# Altium schematic symbol library 3.0 - STM32L0-L1-L4系列单片机.SchLib: 39 symbols (part 1 of 3)
Pins are listed as number, name and electrical type; pins without a type are passive.

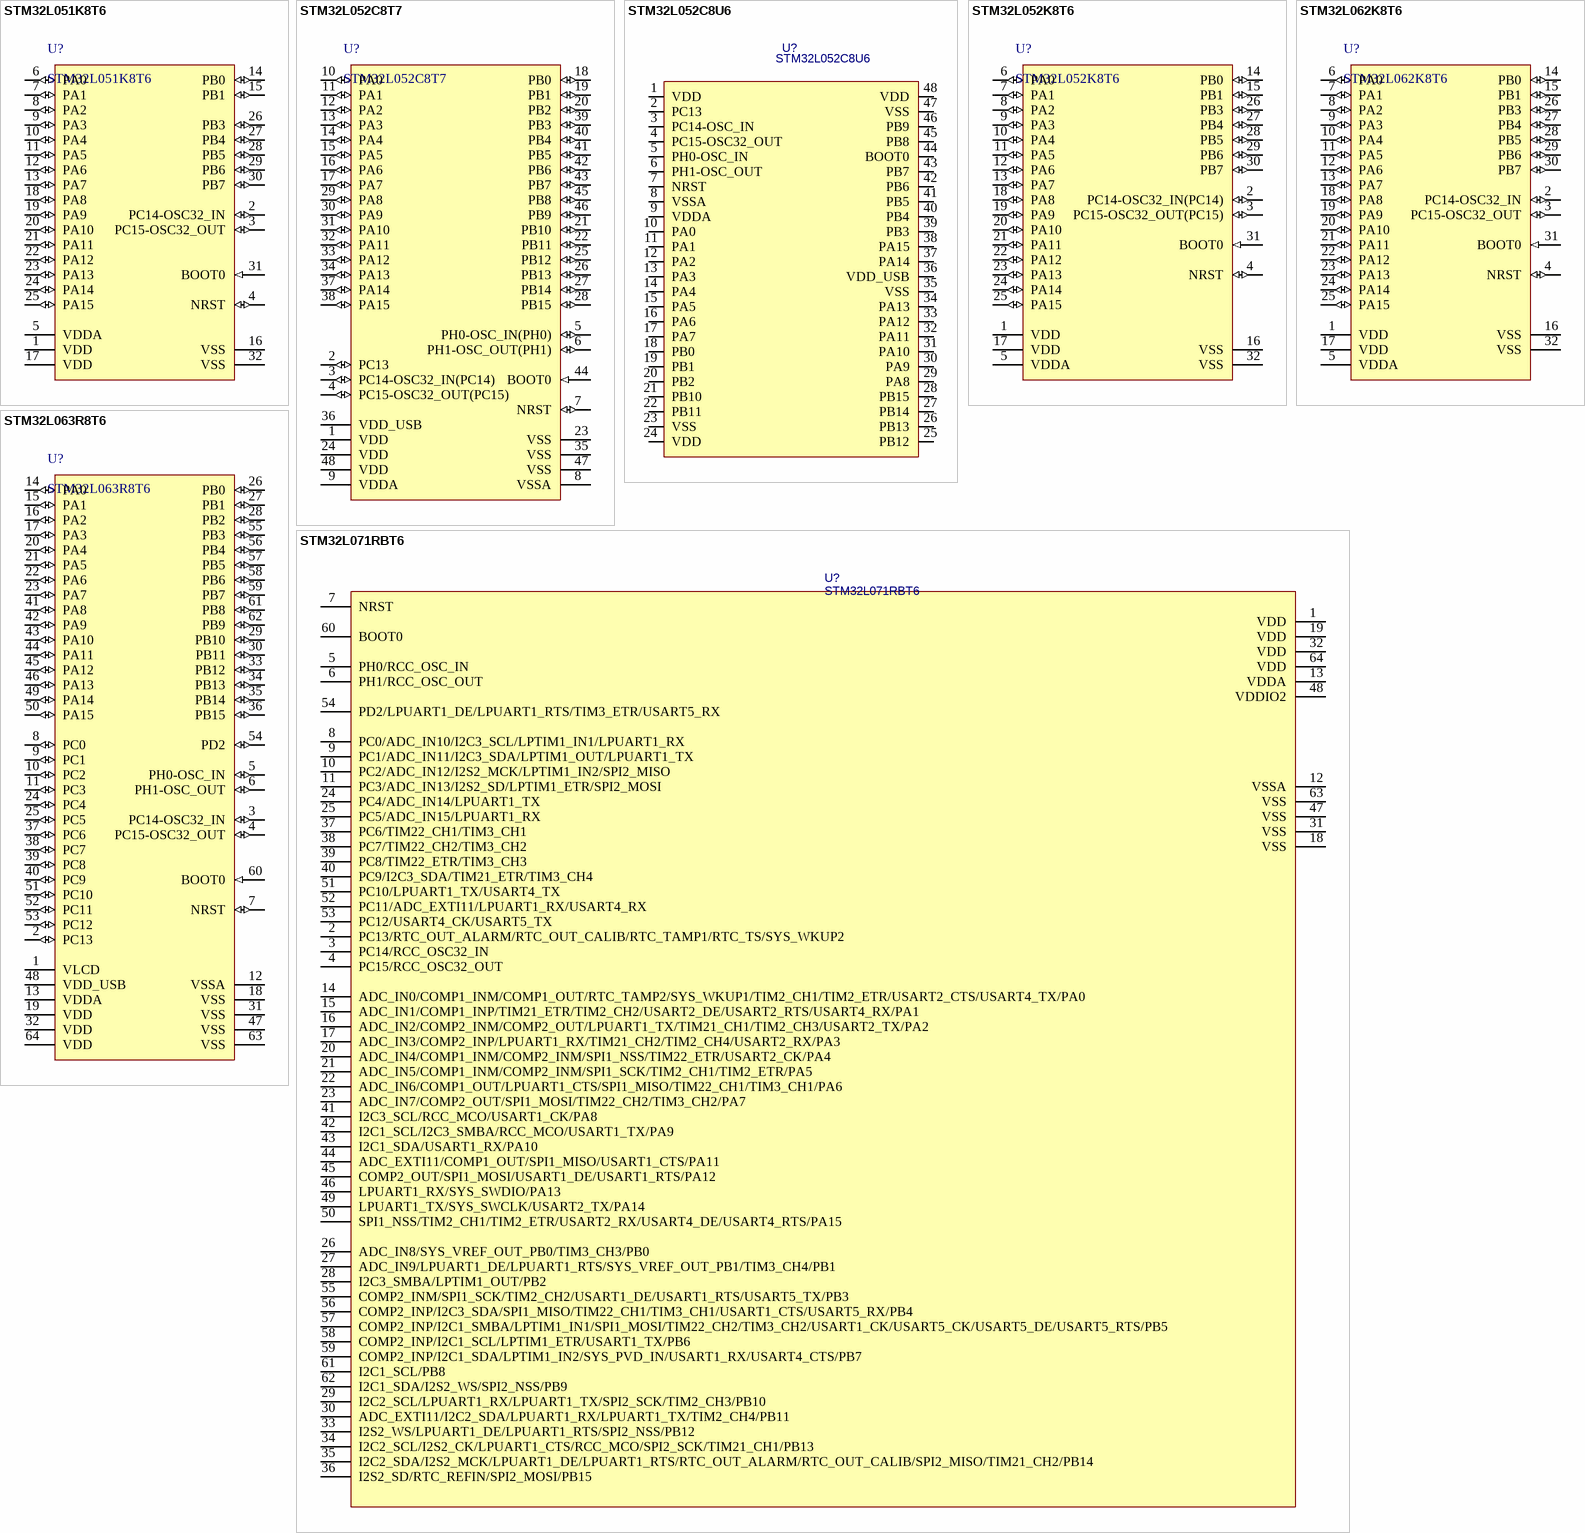
[diagram p0: symbols STM32L051K8T6 to STM32L071RBT6]

## STM32L051K8T6
designator U?
Ultra-Low-Power ARM Cortex-M0+ MCU, 64 KB Flash, 1.8 to 3.6 V, -40 to 85 degC, 32-Pin LQFP, RoHS, Tray; VDD Min: 1.8 V; VDD Max: 3.6 V; Flash: 64 KB; RAM: 8 KB; Data EEPROM: 2 KB; 封装库来自淘宝卖家ID：黄晶宝石: 其他店铺购入均为盗版假冒封装库,请立即申请退款，本店现金奖励100~1000元; Packing: Tray; Mounting Technology: Surface Mount; ComponentLink2URL: http://www.st.com/st-web-ui/static/active/en/resource/technical/document/datasheet/DM00108219.pdf; RoHS: TRUE; PackageDescription: 32-Pin Low-Profile Quad Flat Package, Body 7 x 7 mm, Pitch 0.8 mm; Temperature Max: 85 degC; ComponentLink3URL: http://www.st.com/st-web-ui/static/active/en/resource/technical/document/datasheet/DM00108219.pdf; ComponentLink1URL: http://www.st.com/web/en/home.html; DatasheetVersion: Rev. 4; Temperature Min: -40 degC; ComponentLink2Description: Datasheet; ComponentLink3Description: Package Specification; ComponentLink1Description: Manufacturer URL; PartNumber: STM32L051K8T6
footprint STM-LQFP32_M (QFP, 32-Leads, Body 7x7mm, Pitch 0.8mm, IPC Low Density)
footprint STM-LQFP32_L (QFP, 32-Leads, Body 7x7mm, Pitch 0.8mm, IPC High Density)
footprint STM-LQFP32_N (QFP, 32-Leads, Body 7x7mm, Pitch 0.8mm, IPC Medium Density)
pins: 1 VDD (power), 2 PC14-OSC32_IN (io), 3 PC15-OSC32_OUT (io), 4 NRST (io), 5 VDDA (power), 6 PA0 (io), 7 PA1 (io), 8 PA2 (io), 9 PA3 (io), 10 PA4 (io), 11 PA5 (io), 12 PA6 (io), 13 PA7 (io), 14 PB0 (io), 15 PB1 (io), 16 VSS (power), 17 VDD (power), 18 PA8 (io), 19 PA9 (io), 20 PA10 (io), 21 PA11 (io), 22 PA12 (io), 23 PA13 (io), 24 PA14 (io), 25 PA15 (io), 26 PB3 (io), 27 PB4 (io), 28 PB5 (io), 29 PB6 (io), 30 PB7 (io), 31 BOOT0 (in), 32 VSS (power)

## STM32L052C8T7
designator U?
Ultra-Low-Power ARM Cortex-M0+MCU, 64 KB Flash, 8 KB Internal RAM, 37 I/Os, 48-Pin LQFP, -40 to 105 degC, Tray; Supply Voltage(Vcc) min (V): 1.65; Internal RAM Size (kB): 8; D/A Converter: 1; Operating Frequency(F) (Processor speed) (MHz): 32; FLASH Size (Prog) (kB): 64; Data E2PROM nom (B): 2048; I/Os (High Current): 37; 封装库来自淘宝卖家ID：黄晶宝石: 其他店铺购入均为盗版假冒封装库,请立即申请退款，本店现金奖励100~1000元; ComponentLink1Description: Manufacturer URL; Package Reference: LQFP48; Package Description: 48-Pin Low Profile Quad Flat Package, Body 7 x 7 mm, Pitch 0.5 mm; Core: ARM Cortex-M0+; Mounting Technology: Surface Mount; ComponentLink1URL: http://www.st.com/; ComponentLink2URL: http://www.st.com/st-web-ui/static/active/en/resource/technical/document/datasheet/DM00108217.pdf; Packing: Tray; ComponentLink2Description: Datasheet; DatasheetVersion: Rev. 6
footprint STM-LQFP48_L (QFP, 48-Leads, Body 7x7mm, Pitch 0.5mm, IPC High Density)
footprint STM-LQFP48_M (QFP, 48-Leads, Body 7x7mm, Pitch 0.5mm, IPC Low Density)
footprint STM-LQFP48_N (QFP, 48-Leads, Body 7x7mm, Pitch 0.5mm, IPC Medium Density)
pins: 1 VDD (power), 2 PC13 (io) "PC13/RTC_TAMP1/RTC_TS/RTC_OUT/WKUP2", 3 PC14-OSC32_IN(PC14) (io) "PC14/OSC32_IN", 4 PC15-OSC32_OUT(PC15) (io) "PC15/OSC32_OUT", 5 PH0-OSC_IN(PH0) (io) "PH0/USB_CRS_SYNC/OSC_IN", 6 PH1-OSC_OUT(PH1) (io) "PH1/OSC_OUT", 7 NRST (io), 8 VSSA (power), 9 VDDA (power), 10 PA0 (io) "PA0/TIM2_CH1,TSC_G1_IO1,USART2_CTS,TIM2_ETR,COMP1_OUT/COMP1_INM6,ADC_IN0,RTC_TAMP2/WKUP1", 11 PA1 (io) "PA1/EVENTOUT,TIM2_CH2,TSC_G1_IO2,USART2_RTS_DE,TIM21_ETR/COMP1_INP,ADC_IN1", 12 PA2 (io) "PA2/TIM21_CH1,TIM2_CH3,TSC_G1_IO3,USART2_TX,COMP2_OUT/COMP2_INM6,ADC_IN2", 13 PA3 (io) "PA3/TIM21_CH2,TIM2_CH4,TSC_G1_IO4,USART2_RX/COMP2_INP,ADC_IN3", 14 PA4 (io) "PA4/SPI1_NSS,TSC_G2_IO1,USART2_CK,TIM22_ETR/COMP1_INM4,COMP2_INM4,ADC_IN4,DAC_OUT", 15 PA5 (io) "PA5/SPI1_SCK,TIM2_ETR,TSC_G2_IO2,TIM2_CH1/COMP1_INM5,COMP2_INM5,ADC_IN5", 16 PA6 (io) "PA6/SPI1_MISO,TSC_G2_IO3,LPUART1_CTS,TIM22_CH1,EVENTOUT,COMP1_OUT/ADC_IN6", 17 PA7 (io) "PA7/SPI1_MOSI,TSC_G2_IO4,TIM22_CH2,EVENTOUT,COMP2_OUT/ADC_IN7", 18 PB0 (io) "PB0/EVENTOUT,TSC_G3_IO2/ADC_IN8,VREF_OUT", 19 PB1 (io) "PB1/TSC_G3_IO3,LPUART1_RTS_DE/ADC_IN9,VREF_OUT", 20 PB2 (io) "PB2/LPTIM1_OUT,TSC_G3_IO4", 21 PB10 (io) "PB10/TIM2_CH3,TSC_SYNC,LPUART1_TX,SPI2_SCK,I2C2_SCL", 22 PB11 (io) "PB11/EVENTOUT,TIM2_CH4,TSC_G6_IO1,LPUART1_RX,I2C2_SDA", 23 VSS (power), 24 VDD (power), 25 PB12 (io) "PB12/SPI2_NSS/I2S2_WS,LPUART1_RTS_DE,TSC_G6_IO2,I2C2_SMBA,EVENTOUT", 26 PB13 (io) "PB13/SPI2_SCK/I2S2_CK,TSC_G6_IO3,LPUART1_CTS,I2C2_SCL,TIM21_CH1", 27 PB14 (io) "PB14/SPI2_MISO/I2S2_MCK,RTC_OUT,TSC_G6_IO4,LPUART1_RTS_DE,I2C2_SDA,TIM21_CH2", 28 PB15 (io) "PB15/SPI2_MOSI/I2S2_SD,RTC_REFIN", 29 PA8 (io) "PA8/MCO,USB_CRS_SYNC,EVENTOUT,USART1_CK", 30 PA9 (io) "PA9/MCO,TSC_G4_IO1,USART1_TX", 31 PA10 (io) "PA10/TSC_G4_IO2,USART1_RX", 32 PA11 (io) "PA11/SPI1_MISO,EVENTOUT,TSC_G4_IO3,USART1_CTS,COMP1_OUT/USB_DM", 33 PA12 (io) "PA12/SPI1_MOSI,EVENTOUT,TSC_G4_IO4,USART1_RTS_DE,COMP2_OUT/USB_DP", 34 PA13 (io) "PA13/SWDIO,USB_OE", 35 VSS (power), 36 VDD_USB (power), 37 PA14 (io) "PA14/SWCLK,USART2_TX", 38 PA15 (io) "PA15/SPI1_NSS,TIM2_ETR,EVENTOUT,USART2_RX,TIM2_CH1", 39 PB3 (io) "PB3/SPI1_SCK,TIM2_CH2,TSC_G5I_O1,EVENTOUT/COMP2_INN", 40 PB4 (io) "PB4/SPI1_MISO,EVENTOUT,TSC_G5_IO2,TIM22_CH1/COMP2_INP", 41 PB5 (io) "PB5/SPI1_MOSI,LPTIM1_IN1,I2C1_SMBA,TIM22_CH2/COMP2_INP", 42 PB6 (io) "PB6/USART1_TX,I2C1_SCL,LPTIM1_ETR,TSC_G5_IO3/COMP2_INP", 43 PB7 (io) "PB7/USART1_RX,I2C1_SDA,LPTIM1_IN2,TSC_G5_IO4/COMP2_INP,PVD_IN", 44 BOOT0 (in), 45 PB8 (io) "PB8/TSC_SYNC,I2C1_SCL", 46 PB9 (io) "PB9/EVENTOUT,I2C1_SDA,SPI2_NSS/I2S2_WS", 47 VSS (power), 48 VDD (power)

## STM32L052C8U6
designator U?
BOM_Manufacturer: STMicroelectronics; 封装库来自淘宝卖家ID：黄晶宝石: 其他店铺购入均为盗版假冒封装库,请立即申请退款，本店现金奖励100~1000元
footprint UFQFPN48_N (QFN, 48-Leads, Body 7x7mm, Pitch 0.5mm, Thermal Pad 5.6x5.6mm, IPC Medium Density)
pins: 1 VDD, 2 PC13, 3 PC14-OSC_IN, 4 PC15-OSC32_OUT, 5 PH0-OSC_IN, 6 PH1-OSC_OUT, 7 NRST, 8 VSSA, 9 VDDA, 10 PA0, 11 PA1, 12 PA2, 13 PA3, 14 PA4, 15 PA5, 16 PA6, 17 PA7, 18 PB0, 19 PB1, 20 PB2, 21 PB10, 22 PB11, 23 VSS, 24 VDD, 25 PB12, 26 PB13, 27 PB14, 28 PB15, 29 PA8, 30 PA9, 31 PA10, 32 PA11, 33 PA12, 34 PA13, 35 VSS, 36 VDD_USB, 37 PA14, 38 PA15, 39 PB3, 40 PB4, 41 PB5, 42 PB6, 43 PB7, 44 BOOT0, 45 PB8, 46 PB9, 47 VSS, 48 VDD

## STM32L052K8T6
designator U?
Ultra-Low-Power ARM Cortex-M0+MCU, 64 KB Flash, 8 KB Internal RAM, 27 I/Os, 32-Pin LQFP, -40 to 85 degC, Tray; I/Os (High Current): 27; FLASH Size (Prog) (kB): 64; Supply Voltage(Vcc) min (V): 1.65; Internal RAM Size (kB): 8; Data E2PROM nom (B): 2048; Operating Frequency(F) (Processor speed) (MHz): 32; D/A Converter: 1; 封装库来自淘宝卖家ID：黄晶宝石: 其他店铺购入均为盗版假冒封装库,请立即申请退款，本店现金奖励100~1000元; DatasheetVersion: Rev. 6; ComponentLink2Description: Datasheet; Package Reference: LQFP32; Mounting Technology: Surface Mount; Packing: Tray; ComponentLink2URL: http://www.st.com/st-web-ui/static/active/en/resource/technical/document/datasheet/DM00108217.pdf; ComponentLink1URL: http://www.st.com/; Core: ARM Cortex-M0+; Package Description: 32-Pin Low Profile Quad Flat Package, 7 x 7 mm Body, 0.8 mm Pitch; ComponentLink1Description: Manufacturer URL
footprint STM-LQFP32_N (QFP, 32-Leads, Body 7x7mm, Pitch 0.8mm, IPC Medium Density)
footprint STM-LQFP32_M (QFP, 32-Leads, Body 7x7mm, Pitch 0.8mm, IPC Low Density)
footprint STM-LQFP32_L (QFP, 32-Leads, Body 7x7mm, Pitch 0.8mm, IPC High Density)
pins: 1 VDD (power), 2 PC14-OSC32_IN(PC14) (io) "PC14/OSC32_IN", 3 PC15-OSC32_OUT(PC15) (io) "PC15/OSC32_OUT", 4 NRST (io), 5 VDDA (power), 6 PA0 (io) "PA0/TIM2_CH1,TSC_G1_IO1,USART2_CTS,TIM2_ETR,COMP1_OUT/COMP1_INM6,ADC_IN0,RTC_TAMP2/WKUP1", 7 PA1 (io) "PA1/EVENTOUT,TIM2_CH2,TSC_G1_IO2,USART2_RTS_DE,TIM21_ETR/COMP1_INP,ADC_IN1", 8 PA2 (io) "PA2/TIM21_CH1,TIM2_CH3,TSC_G1_IO3,USART2_TX,COMP2_OUT/COMP2_INM6,ADC_IN2", 9 PA3 (io) "PA3/TIM21_CH2,TIM2_CH4,TSC_G1_IO4,USART2_RX/COMP2_INP,ADC_IN3", 10 PA4 (io) "PA4/SPI1_NSS,TSC_G2_IO1,USART2_CK,TIM22_ETR/COMP1_INM4,COMP2_INM4,ADC_IN4,DAC_OUT", 11 PA5 (io) "PA5/SPI1_SCK,TIM2_ETR,TSC_G2_IO2,TIM2_CH1/COMP1_INM5,COMP2_INM5,ADC_IN5", 12 PA6 (io) "PA6/SPI1_MISO,TSC_G2_IO3,LPUART1_CTS,TIM22_CH1,EVENTOUT,COMP1_OUT/ADC_IN6", 13 PA7 (io) "PA7/SPI1_MOSI,TSC_G2_IO4,TIM22_CH2,EVENTOUT,COMP2_OUT/ADC_IN7", 14 PB0 (io) "PB0/EVENTOUT,TSC_G3_IO2/ADC_IN8,VREF_OUT", 15 PB1 (io) "PB1/TSC_G3_IO3,LPUART1_RTS_DE/ADC_IN9,VREF_OUT", 16 VSS (power), 17 VDD (power), 18 PA8 (io) "PA8/MCO,USB_CRS_SYNC,EVENTOUT,USART1_CK", 19 PA9 (io) "PA9/MCO,TSC_G4_IO1,USART1_TX", 20 PA10 (io) "PA10/TSC_G4_IO2,USART1_RX", 21 PA11 (io) "PA11/SPI1_MISO,EVENTOUT,TSC_G4_IO3,USART1_CTS,COMP1_OUT/USB_DM", 22 PA12 (io) "PA12/SPI1_MOSI,EVENTOUT,TSC_G4_IO4,USART1_RTS_DE,COMP2_OUT/USB_DP", 23 PA13 (io) "PA13/SWDIO,USB_OE", 24 PA14 (io) "PA14/SWCLK,USART2_TX", 25 PA15 (io) "PA15/SPI1_NSS,TIM2_ETR,EVENTOUT,USART2_RX,TIM2_CH1", 26 PB3 (io) "PB3/SPI1_SCK,TIM2_CH2,TSC_G5I_O1,EVENTOUT/COMP2_INN", 27 PB4 (io) "PB4/SPI1_MISO,EVENTOUT,TSC_G5_IO2,TIM22_CH1/COMP2_INP", 28 PB5 (io) "PB5/SPI1_MOSI,LPTIM1_IN1,I2C1_SMBA,TIM22_CH2/COMP2_INP", 29 PB6 (io) "PB6/USART1_TX,I2C1_SCL,LPTIM1_ETR,TSC_G5_IO3/COMP2_INP", 30 PB7 (io) "PB7/USART1_RX,I2C1_SDA,LPTIM1_IN2,TSC_G5_IO4/COMP2_INP,PVD_IN", 31 BOOT0 (in), 32 VSS (power)

## STM32L062K8T6
designator U?
Ultra-Low-Power ARM Cortex-M0+ MCU, 64 KB Flash, 8 KB Internal RAM, 27 I/Os, 32-Pin LQFP, -40 to 85 degC, Tray; Internal RAM Size (kB): 8; I/Os (High Current): 27; D/A Converter: 1; Operating Frequency(F) (Processor speed) (MHz): 32; Supply Voltage(Vcc) min (V): 1.65; FLASH Size (Prog) (kB): 64; Data E2PROM nom (B): 2048; 封装库来自淘宝卖家ID：黄晶宝石: 其他店铺购入均为盗版假冒封装库,请立即申请退款，本店现金奖励100~1000元; ComponentLink2Description: Datasheet; DatasheetVersion: Rev. 7; ComponentLink2URL: http://www.st.com/st-web-ui/static/active/en/resource/technical/document/datasheet/DM00108218.pdf; Core: ARM Cortex-M0+; Package Reference: LQFP32; ComponentLink1Description: Manufacturer URL; Package Description: 32-Pin Low Profile Quad Flat Package, 7 x 7 mm Body, 0.8 mm Pitch; Mounting Technology: Surface Mount; ComponentLink1URL: http://www.st.com/; Packing: Tray
footprint STM-LQFP32_N-1 (QFP, 32-Leads, Body 7x7mm, Pitch 0.8mm, IPC Medium Density)
footprint STM-LQFP32_M-2 (QFP, 32-Leads, Body 7x7mm, Pitch 0.8mm, IPC Low Density)
footprint STM-LQFP32_L-3 (QFP, 32-Leads, Body 7x7mm, Pitch 0.8mm, IPC High Density)
pins: 1 VDD (power), 2 PC14-OSC32_IN (io) "PC14-OSC32_IN/OSC32_IN", 3 PC15-OSC32_OUT (io) "PC15-OSC32_OUT/OSC32_OUT", 4 NRST (io), 5 VDDA (power), 6 PA0 (io) "PA0/TIM2_CH1,TSC_G1_IO1,USART2_CTS,TIM2_ETR,COMP1_OUT/COMP1_INM6,ADC_IN0,RTC_TAMP2/WKUP1", 7 PA1 (io) "PA1/EVENTOUT,TIM2_CH2,TSC_G1_IO2,USART2_RTS_DE,TIM21_ETR/COMP1_INP,ADC_IN1", 8 PA2 (io) "PA2/TIM21_CH1,TIM2_CH3,TSC_G1_IO3,USART2_TX,COMP2_OUT/COMP2_INM6,ADC_IN2", 9 PA3 (io) "PA3/TIM21_CH2,TIM2_CH4,TSC_G1_IO4,USART2_RX/COMP2_INP,ADC_IN3", 10 PA4 (io) "PA4/SPI1_NSS,TSC_G2_IO1,USART2_CK,TIM22_ETR/COMP1_INM4,COMP2_INM4,ADC_IN4,DAC_OUT", 11 PA5 (io) "PA5/SPI1_SCK,TIM2_ETR,TSC_G2_IO2,TIM2_CH1/COMP1_INM5,COMP2_INM5,ADC_IN5", 12 PA6 (io) "PA6/SPI1_MISO,TSC_G2_IO3,LPUART1_CTS,TIM22_CH1,EVENTOUT,COMP1_OUT/ADC_IN6", 13 PA7 (io) "PA7/SPI1_MOSI,TSC_G2_IO4,TIM22_CH2,EVENTOUT,COMP2_OUT/ADC_IN7", 14 PB0 (io) "PB0/EVENTOUT,TSC_G3_IO2/ADC_IN8,VREF_OUT", 15 PB1 (io) "PB1/TSC_G3_IO3,LPUART1_RTS_DE/ADC_IN9,VREF_OUT", 16 VSS (power), 17 VDD (power), 18 PA8 (io) "PA8/MCO,USB_CRS_SYNC,EVENTOUT,USART1_CK", 19 PA9 (io) "PA9/MCO,TSC_G4_IO1,USART1_TX", 20 PA10 (io) "PA10/TSC_G4_IO2,USART1_RX", 21 PA11 (io) "PA11/SPI1_MISO,EVENTOUT,TSC_G4_IO3,USART1_CTS,COMP1_OUT/USB_DM", 22 PA12 (io) "PA12/SPI1_MOSI,EVENTOUT,TSC_G4_IO4,USART1_RTS_DE,COMP2_OUT/USB_DP", 23 PA13 (io) "PA13/SWDIO,USB_OE", 24 PA14 (io) "PA14/SWCLK,USART2_TX", 25 PA15 (io) "PA15/SPI1_NSS,TIM2_ETR,EVENTOUT,USART2_RX,TIM2_CH1", 26 PB3 (io) "PB3/SPI1_SCK,TIM2_CH2,TSC_G5I_O1,EVENTOUT/COMP2_INN", 27 PB4 (io) "PB4/SPI1_MISO,EVENTOUT,TSC_G5_IO2,TIM22_CH1/COMP2_INP", 28 PB5 (io) "PB5/SPI1_MOSI,LPTIM1_IN1,I2C1_SMBA,TIM22_CH2/COMP2_INP", 29 PB6 (io) "PB6/USART1_TX,I2C1_SCL,LPTIM1_ETR,TSC_G5_IO3/COMP2_INP", 30 PB7 (io) "PB7/USART1_RX,I2C1_SDA,LPTIM1_IN2,TSC_G5_IO4/COMP2_INP,PVD_IN", 31 BOOT0 (in), 32 VSS (power)

## STM32L063R8T6
designator U?
Ultra-Low-Power ARM Cortex-M0+ MCU, 64 KB Flash, 1.8 to 3.6 V, -40 to 85 degC, 64-Pin LQFP, RoHS, Tray; Data EEPROM: 2 KB; VDD Max: 3.6 V; RAM: 8 KB; VDD Min: 1.8 V; Flash: 64 KB; 封装库来自淘宝卖家ID：黄晶宝石: 其他店铺购入均为盗版假冒封装库,请立即申请退款，本店现金奖励100~1000元; Mounting Technology: Surface Mount; ComponentLink3URL: http://www.st.com/st-web-ui/static/active/en/resource/technical/document/datasheet/DM00058181.pdf; Packing: Tray; PackageDescription: 64-Pin Frame Chip Scale Package, Body 10 x 10 mm, Pitch 0.5 mm; DatasheetVersion: Rev. 4; ComponentLink2Description: Datasheet; ComponentLink1URL: http://www.st.com/web/en/home.html; Temperature Min: -40 degC; ComponentLink2URL: http://www.st.com/st-web-ui/static/active/en/resource/technical/document/datasheet/DM00102435.pdf; ComponentLink3Description: Package Specification; PartNumber: STM32L063R8T6; PackageVersion: Rev. 6, 06/2013; Temperature Max: 85 degC; RoHS: TRUE; ComponentLink1Description: Manufacturer URL
footprint STM-LQFP64_V (Thin QFP, 64-Leads, Body 10x10mm, Pitch 0.5mm, ST Recommended)
pins: 1 VLCD (power), 2 PC13 (io), 3 PC14-OSC32_IN (io), 4 PC15-OSC32_OUT (io), 5 PH0-OSC_IN (io), 6 PH1-OSC_OUT (io), 7 NRST (io), 8 PC0 (io), 9 PC1 (io), 10 PC2 (io), 11 PC3 (io), 12 VSSA (power), 13 VDDA (power), 14 PA0 (io), 15 PA1 (io), 16 PA2 (io), 17 PA3 (io), 18 VSS (power), 19 VDD (power), 20 PA4 (io), 21 PA5 (io), 22 PA6 (io), 23 PA7 (io), 24 PC4 (io), 25 PC5 (io), 26 PB0 (io), 27 PB1 (io), 28 PB2 (io), 29 PB10 (io), 30 PB11 (io), 31 VSS (power), 32 VDD (power), 33 PB12 (io), 34 PB13 (io), 35 PB14 (io), 36 PB15 (io), 37 PC6 (io), 38 PC7 (io), 39 PC8 (io), 40 PC9 (io), 41 PA8 (io), 42 PA9 (io), 43 PA10 (io), 44 PA11 (io), 45 PA12 (io), 46 PA13 (io), 47 VSS (power), 48 VDD_USB (power), 49 PA14 (io), 50 PA15 (io), 51 PC10 (io), 52 PC11 (io), 53 PC12 (io), 54 PD2 (io), 55 PB3 (io), 56 PB4 (io), 57 PB5 (io), 58 PB6 (io), 59 PB7 (io), 60 BOOT0 (in), 61 PB8 (io), 62 PB9 (io), 63 VSS (power), 64 VDD (power)

## STM32L071RBT6
designator U?
BOM_Manufacturer: STMicroelectronics; 封装库来自淘宝卖家ID：黄晶宝石: 其他店铺购入均为盗版假冒封装库,请立即申请退款，本店现金奖励100~1000元
footprint LQFP64_L (封装库来自淘宝 ID：黄晶宝石 Thin QFP, 64-Leads, Body 10x10mm, Pitch 0.5mm, IPC High Density)
pins: 1 VDD, 2 PC13/RTC_OUT_ALARM/RTC_OUT_CALIB/RTC_TAMP1/RTC_TS/SYS_WKUP2, 3 PC14/RCC_OSC32_IN, 4 PC15/RCC_OSC32_OUT, 5 PH0/RCC_OSC_IN, 6 PH1/RCC_OSC_OUT, 7 NRST, 8 PC0/ADC_IN10/I2C3_SCL/LPTIM1_IN1/LPUART1_RX, 9 PC1/ADC_IN11/I2C3_SDA/LPTIM1_OUT/LPUART1_TX, 10 PC2/ADC_IN12/I2S2_MCK/LPTIM1_IN2/SPI2_MISO, 11 PC3/ADC_IN13/I2S2_SD/LPTIM1_ETR/SPI2_MOSI, 12 VSSA, 13 VDDA, 14 ADC_IN0/COMP1_INM/COMP1_OUT/RTC_TAMP2/SYS_WKUP1/TIM2_CH1/TIM2_ETR/USART2_CTS/USART4_TX/PA0, 15 ADC_IN1/COMP1_INP/TIM21_ETR/TIM2_CH2/USART2_DE/USART2_RTS/USART4_RX/PA1, 16 ADC_IN2/COMP2_INM/COMP2_OUT/LPUART1_TX/TIM21_CH1/TIM2_CH3/USART2_TX/PA2, 17 ADC_IN3/COMP2_INP/LPUART1_RX/TIM21_CH2/TIM2_CH4/USART2_RX/PA3, 18 VSS, 19 VDD, 20 ADC_IN4/COMP1_INM/COMP2_INM/SPI1_NSS/TIM22_ETR/USART2_CK/PA4, 21 ADC_IN5/COMP1_INM/COMP2_INM/SPI1_SCK/TIM2_CH1/TIM2_ETR/PA5, 22 ADC_IN6/COMP1_OUT/LPUART1_CTS/SPI1_MISO/TIM22_CH1/TIM3_CH1/PA6, 23 ADC_IN7/COMP2_OUT/SPI1_MOSI/TIM22_CH2/TIM3_CH2/PA7, 24 PC4/ADC_IN14/LPUART1_TX, 25 PC5/ADC_IN15/LPUART1_RX, 26 ADC_IN8/SYS_VREF_OUT_PB0/TIM3_CH3/PB0, 27 ADC_IN9/LPUART1_DE/LPUART1_RTS/SYS_VREF_OUT_PB1/TIM3_CH4/PB1, 28 I2C3_SMBA/LPTIM1_OUT/PB2, 29 I2C2_SCL/LPUART1_RX/LPUART1_TX/SPI2_SCK/TIM2_CH3/PB10, 30 ADC_EXTI11/I2C2_SDA/LPUART1_RX/LPUART1_TX/TIM2_CH4/PB11, 31 VSS, 32 VDD, 33 I2S2_WS/LPUART1_DE/LPUART1_RTS/SPI2_NSS/PB12, 34 I2C2_SCL/I2S2_CK/LPUART1_CTS/RCC_MCO/SPI2_SCK/TIM21_CH1/PB13, 35 I2C2_SDA/I2S2_MCK/LPUART1_DE/LPUART1_RTS/RTC_OUT_ALARM/RTC_OUT_CALIB/SPI2_MISO/TIM21_CH2/PB14, 36 I2S2_SD/RTC_REFIN/SPI2_MOSI/PB15, 37 PC6/TIM22_CH1/TIM3_CH1, 38 PC7/TIM22_CH2/TIM3_CH2, 39 PC8/TIM22_ETR/TIM3_CH3, 40 PC9/I2C3_SDA/TIM21_ETR/TIM3_CH4, 41 I2C3_SCL/RCC_MCO/USART1_CK/PA8, 42 I2C1_SCL/I2C3_SMBA/RCC_MCO/USART1_TX/PA9, 43 I2C1_SDA/USART1_RX/PA10, 44 ADC_EXTI11/COMP1_OUT/SPI1_MISO/USART1_CTS/PA11, 45 COMP2_OUT/SPI1_MOSI/USART1_DE/USART1_RTS/PA12, 46 LPUART1_RX/SYS_SWDIO/PA13, 47 VSS, 48 VDDIO2, 49 LPUART1_TX/SYS_SWCLK/USART2_TX/PA14, 50 SPI1_NSS/TIM2_CH1/TIM2_ETR/USART2_RX/USART4_DE/USART4_RTS/PA15, 51 PC10/LPUART1_TX/USART4_TX, 52 PC11/ADC_EXTI11/LPUART1_RX/USART4_RX, 53 PC12/USART4_CK/USART5_TX, 54 PD2/LPUART1_DE/LPUART1_RTS/TIM3_ETR/USART5_RX, 55 COMP2_INM/SPI1_SCK/TIM2_CH2/USART1_DE/USART1_RTS/USART5_TX/PB3, 56 COMP2_INP/I2C3_SDA/SPI1_MISO/TIM22_CH1/TIM3_CH1/USART1_CTS/USART5_RX/PB4, 57 COMP2_INP/I2C1_SMBA/LPTIM1_IN1/SPI1_MOSI/TIM22_CH2/TIM3_CH2/USART1_CK/USART5_CK/USART5_DE/USART5_RTS/PB5, 58 COMP2_INP/I2C1_SCL/LPTIM1_ETR/USART1_TX/PB6, 59 COMP2_INP/I2C1_SDA/LPTIM1_IN2/SYS_PVD_IN/USART1_RX/USART4_CTS/PB7, 60 BOOT0, 61 I2C1_SCL/PB8, 62 I2C1_SDA/I2S2_WS/SPI2_NSS/PB9, 63 VSS, 64 VDD

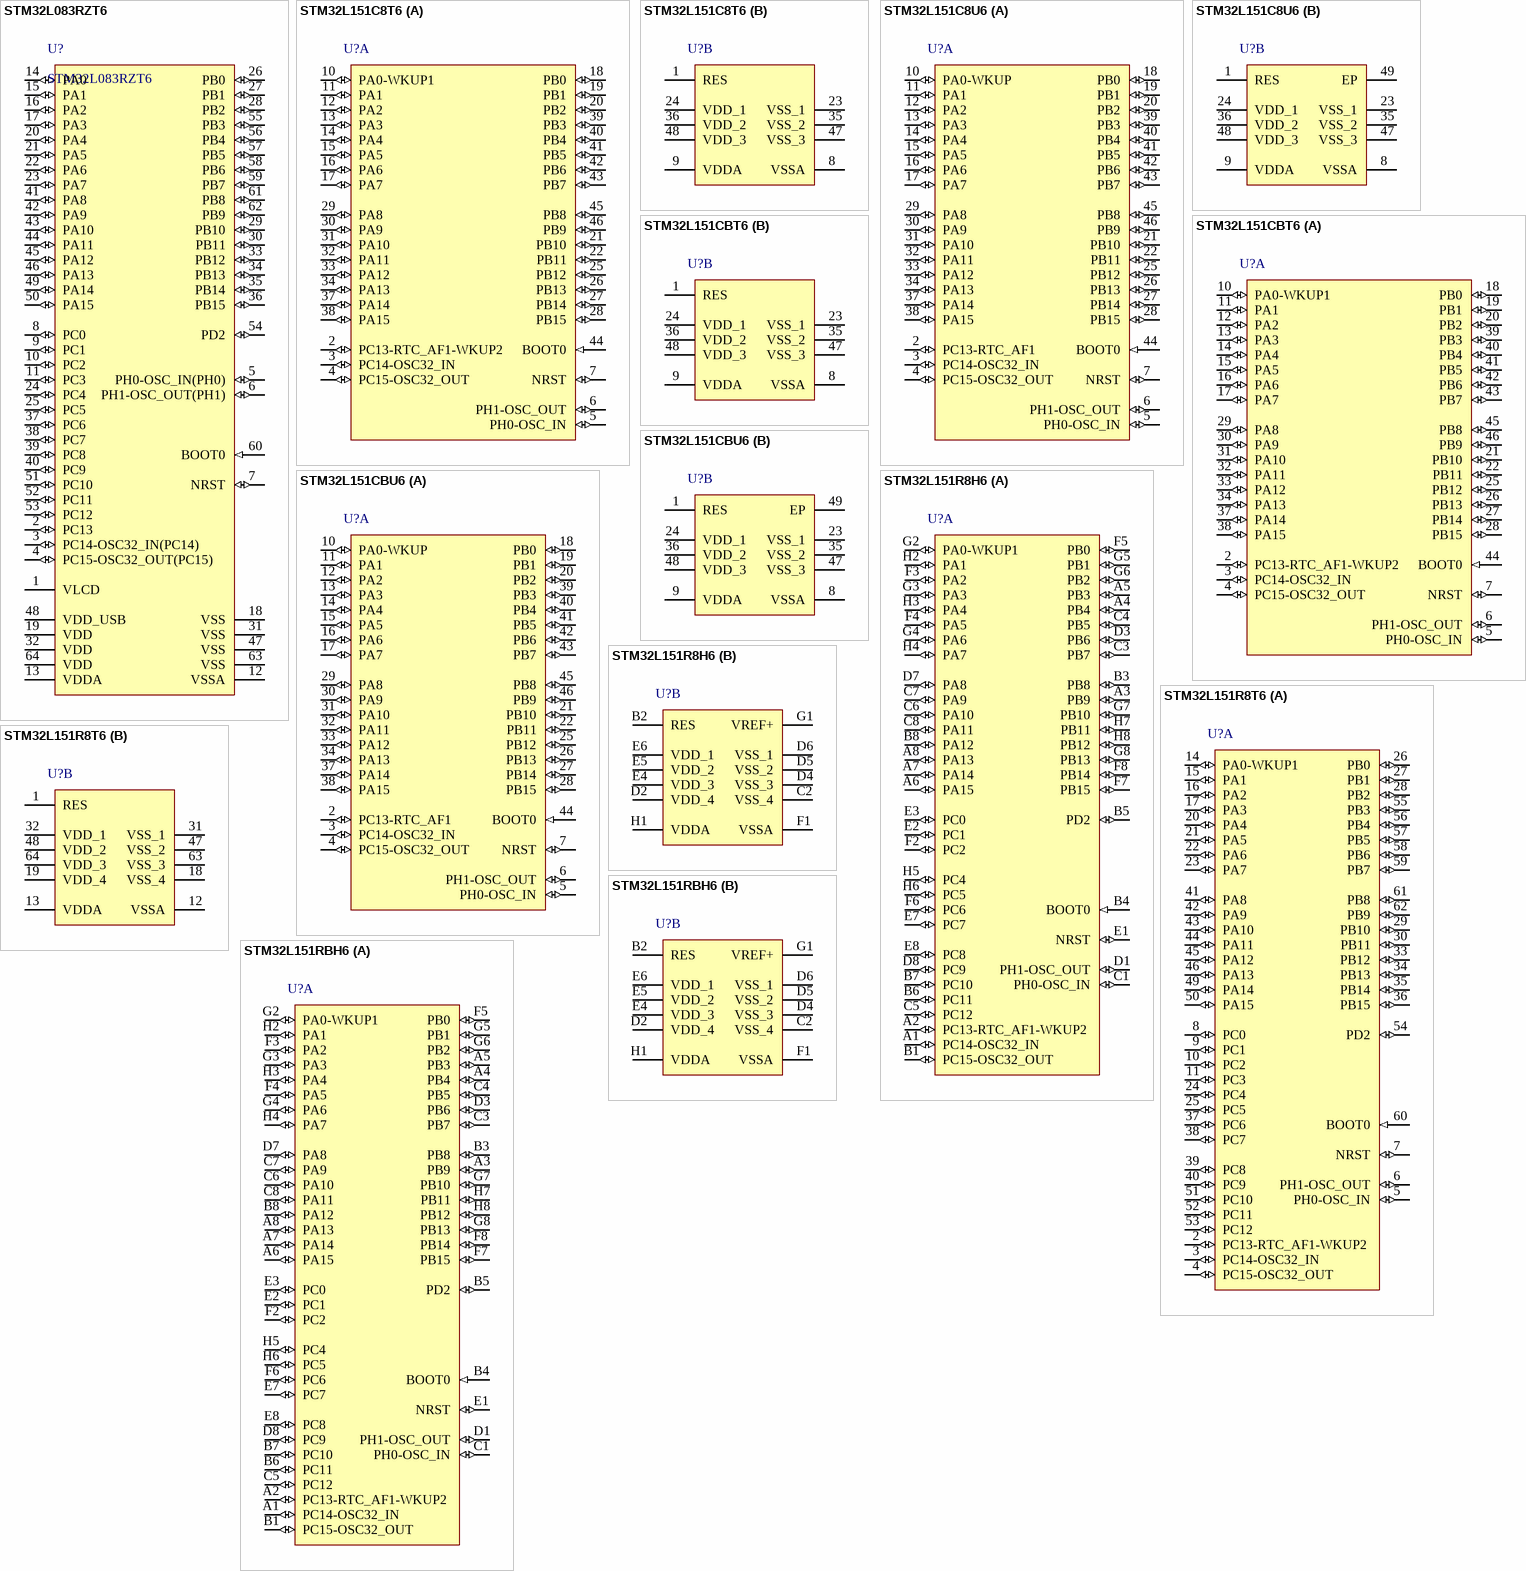
[diagram p1: symbols STM32L083RZT6 to STM32L151RBH6]

## STM32L083RZT6
designator U?
Ultra-Low-Power ARM Cortex-M0+ MCU, 192 KB Flash, 20 KB Internal RAM, 51 I/Os, 64-Pin LQFP, -40 to 85 degC, Tray; FLASH Size (Prog) (kB): 192; Data E2PROM nom (B): 6144; D/A Converter: 2; I/Os (High Current): 51; Supply Voltage(Vcc) min (V): 1.8; Internal RAM Size (kB): 20; Operating Frequency(F) (Processor speed) (MHz): 32; 封装库来自淘宝卖家ID：黄晶宝石: 其他店铺购入均为盗版假冒封装库,请立即申请退款，本店现金奖励100~1000元; Packing: Tray; ComponentLink1URL: http://www.st.com/; ComponentLink1Description: Manufacturer URL; Package Description: 64-Pin Low-profile Quad Flat Package, Body 10 x 10 mm, Pitch 0.5 mm; Package Reference: LQFP64; ComponentLink2Description: Datasheet; DatasheetVersion: Rev. 2; ComponentLink2URL: http://www.st.com/st-web-ui/static/active/en/resource/technical/document/datasheet/DM00140762.pdf; Core: ARM Cortex-M0+; Mounting Technology: Surface Mount
footprint STM-LQFP64_N (QFP, 64-Leads, Body 10x10mm, Pitch 0.5mm, IPC Medium Density)
footprint STM-LQFP64_M (QFP, 64-Leads, Body 10x10mm, Pitch 0.5mm, IPC Low Density)
footprint STM-LQFP64_L (QFP, 64-Leads, Body 10x10mm, Pitch 0.5mm, IPC High Density)
pins: 1 VLCD (power), 2 PC13 (io) "PC13/RTC_TAMP1/RTC_TS/RTC_OUT/WKUP2", 3 PC14-OSC32_IN(PC14) (io) "PC14-OSC32_IN(PC14)/OSC32_IN", 4 PC15-OSC32_OUT(PC15) (io) "PC15-OSC32_OUT(PC15)/OSC32_OUT", 5 PH0-OSC_IN(PH0) (io) "PH0-OSC_IN(PH0)/USB_CRS_SYNC/OSC_IN", 6 PH1-OSC_OUT(PH1) (io) "PH1-OSC_OUT(PH1)/OSC_OUT", 7 NRST (io), 8 PC0 (io) "PC0/LPTIM1_IN1,LCD_SEG18,EVENTOUT,TSC_G7_IO1,LPUART1_RX,I2C3_SCL/ADC_IN10", 9 PC1 (io) "PC1/LPTIM1_OUT,LCD_SEG19,EVENTOUT,TSC_G7_IO2,LPUART1_TX,I2C3_SDA/ADC_IN11", 10 PC2 (io) "PC2/LPTIM1_IN2,LCD_SEG20,SPI2_MISO/I2S2_MCK,TSC_G7_IO3/ADC_IN12", 11 PC3 (io) "PC3/LPTIM1_ETR,LCD_SEG21,SPI2_MOSI/I2S2_SD,TSC_G7_IO4/ADC_IN13", 12 VSSA (power), 13 VDDA (power), 14 PA0 (io) "PA0/TIM2_CH1,TSC_G1_IO1,USART2_CTS,TIM2_ETR,USART4_TX,COMP1_OUT/COMP1_INM,ADC_IN0,RTC_TAMP2/WKUP1", 15 PA1 (io) "PA1/EVENTOUT,LCD_SEG0,TIM2_CH2,TSC_G1_IO2,USART2_RTS_DE,TIM21_ETR,USART4_RX/COMP1_INP,ADC_IN1", 16 PA2 (io) "PA2/TIM21_CH1,LCD_SEG1,TIM2_CH3,TSC_G1_IO3,USART2_TX,LPUART1_TX,COMP2_OUT/COMP2_INM,ADC_IN2", 17 PA3 (io) "PA3/TIM21_CH2,LCD_SEG2,TIM2_CH4,TSC_G1_IO4,USART2_RX,LPUART1_RX/COMP2_INP,ADC_IN3", 18 VSS (power), 19 VDD (power), 20 PA4 (io) "PA4/SPI1_NSS,TSC_G2_IO1,USART2_CK,TIM22_ETR/COMP1_INM,COMP2_INM,ADC_IN4,DAC_OUT1", 21 PA5 (io) "PA5/SPI1_SCK,TIM2_ETR,TSC_G2_IO2,TIM2_CH1/COMP1_INM,COMP2_INM,ADC_IN5,DAC_OUT2", 22 PA6 (io) "PA6/SPI1_MISO,LCD_SEG3,TIM3_CH1,TSC_G2_IO3,LPUART1_CTS,TIM22_CH1,EVENTOUT,COMP1_OUT/ADC_IN6", 23 PA7 (io) "PA7/SPI1_MOSI,LCD_SEG4,TIM3_CH2,TSC_G2_IO4,TIM22_CH2,EVENTOUT,COMP2_OUT/ADC_IN7", 24 PC4 (io) "PC4/EVENTOUT,LCD_SEG22,LPUART1_TX/ADC_IN14", 25 PC5 (io) "PC5/LCD_SEG23,LPUART1_RX,TSC_G3_IO1/ADC_IN15", 26 PB0 (io) "PB0/EVENTOUT,LCD_SEG5,TIM3_CH3,TSC_G3_IO2/LCD_VLCD3,ADC_IN8,VREF_OUT", 27 PB1 (io) "PB1/LCD_SEG6,TIM3_CH4,TSC_G3_IO3,LPUART1_RTS_DE/ADC_IN9,VREF_OUT", 28 PB2 (io) "PB2/LPTIM1_OUT,TSC_G3_IO4,I2C3_SMBA/LCD_VLCD1", 29 PB10 (io) "PB10/LCD_SEG10,TIM2_CH3,TSC_SYNC,LPUART1_TX,SPI2_SCK,I2C2_SCL,LPUART1_RX", 30 PB11 (io) "PB11/EVENTOUT,LCD_SEG11,TIM2_CH4,TSC_G6_IO1,LPUART1_RX,I2C2_SDA,LPUART1_TX", 31 VSS (power), 32 VDD (power), 33 PB12 (io) "PB12/SPI2_NSS/I2S2_WS,LCD_SEG12,LPUART1_RTS_DE,TSC_G6_IO2,I2C2_SMBA,EVENTOUT/LCD_VLCD2", 34 PB13 (io) "PB13/SPI2_SCK/I2S2_CK,LCD_SEG13,MCO,TSC_G6_IO3,LPUART1_CTS,I2C2_SCL,TIM21_CH1", 35 PB14 (io) "PB14/SPI2_MISO/I2S2_MCK,LCD_SEG14,RTC_OUT,TSC_G6_IO4,LPUART1_RTS_DE,I2C2_SDA,TIM21_CH2", 36 PB15 (io) "PB15/SPI2_MOSI/I2S2_SD,LCD_SEG15,RTC_REFIN", 37 PC6 (io) "E12/TIM22_CH1,LCD_SEG24,TIM3_CH1,TSC_G8_IO1", 38 PC7 (io) "E11/TIM22_CH2,LCD_SEG25,TIM3_CH2,TSC_G8_IO2", 39 PC8 (io) "E10/TIM22_ETR,LCD_SEG26,TIM3_CH3,TSC_G8_IO3", 40 PC9 (io) "D12/TIM21_ETR,LCD_SEG27,USB_OE/TIM3_CH4,TSC_G8_IO4,I2C3_SDA", 41 PA8 (io) "D11/MCO,LCD_COM0,USB_CRS_SYNC,EVENTOUT,USART1_CK,I2C3_SCL", 42 PA9 (io) "D10/MCO,LCD_COM1,TSC_G4_IO1,USART1_TX,I2C1_SCL,I2C3_SMBA", 43 PA10 (io) "C12/LCD_COM2,TSC_G4_IO2,USART1_RX,I2C1_SDA", 44 PA11 (io) "B12/SPI1_MISO,EVENTOUT,TSC_G4_IO3,USART1_CTS,COMP1_OUT/USB_DM", 45 PA12 (io) "PA12/SPI1_MOSI,EVENTOUT,TSC_G4_IO4,USART1_RTS_DE,COMP2_OUT/USB_DP", 46 PA13 (io) "PA13/SWDIO,USB_OE,LPUART1_RX", 47 VSS (power), 48 VDD_USB (power), 49 PA14 (io) "PA14/SWCLK,USART2_TX,LPUART1_TX", 50 PA15 (io) "PA15/SPI1_NSS,LCD_SEG17,TIM2_ETR,EVENTOUT,USART2_RX,TIM2_CH1,USART4_RTS_DE", 51 PC10 (io) "PC10/LPUART1_TX,LCD_COM4/LCD_SEG28/LCD_SEG48,USART4_TX", 52 PC11 (io) "PC11/LPUART1_RX,LCD_COM5/LCD_SEG29/LCD_SEG49,USART4_RX", 53 PC12 (io) "PC12/LCD_COM6/LCD_SEG30/LCD_SEG50,USART5_TX,USART4_CK", 54 PD2 (io) "PD2/LPUART1_RTS_DE,LCD_COM7/LCD_SEG31/LCD_SEG51,TIM3_ETR,USART5_RX", 55 PB3 (io) "PB3/SPI1_SCK,LCD_SEG7,TIM2_CH2,TSC_G5_IO1,EVENTOUT,USART1_RTS_DE,USART5_TX/COMP2_INM", 56 PB4 (io) "PB4/SPI1_MISO,LCD_SEG8,TIM3_CH1,TSC_G5_IO2,TIM22_CH1,USART1_CTS,USART5_RX,I2C3_SDA/COMP2_INP", 57 PB5 (io) "PB5/SPI1_MOSI,LCD_SEG9,LPTIM1_IN1,I2C1_SMBA,TIM3_CH2/TIM22_CH2,USART1_CK,USART5_CK/USART5_RTS/COMP2_INP", 58 PB6 (io) "PB6/USART1_TX,I2C1_SCL,LPTIM1_ETR,TSC_G5_IO3/COMP2_INP", 59 PB7 (io) "PB7/USART1_RX,I2C1_SDA,LPTIM1_IN2,TSC_G5_IO4,USART4_CTS/COMP2_INP,PVD_IN", 60 BOOT0 (in), 61 PB8 (io) "PB8/LCD_SEG16,TSC_SYNC,I2C1_SCL", 62 PB9 (io) "PB9/LCD_COM3,EVENTOUT,I2C1_SDA,SPI2_NSS/I2S2_WS", 63 VSS (power), 64 VDD (power)

## STM32L151C8T6
designator U?
STM32L ARM-based EnergyLite 32-bit MCU, 64 kB Flash, 10 kB Internal RAM, -40 to +85癈 Temperature, 48-pin LQFP, Tray; 封装库来自淘宝卖家ID：黄晶宝石: 其他店铺购入均为盗版假冒封装库,请立即申请退款，本店现金奖励100~1000元; DatasheetVersion: rev6, Jan-2012; PackageVersion: rev13, Apr-2011; PackageReference: LQFP48; PackageDescription: 48-Pin Low-Profile Quad Flat Pack, 7 x 7 mm Body, 0.5 mm Pitch (LQFP48); ComponentLink1Description: Manufacturer URL; ComponentLink1URL: http://www.st.com/; ComponentLink2Description: STM32L151/152 Datasheet; ComponentLink2URL: http://www.st.com/internet/com/TECHNICAL_RESOURCES/TECHNICAL_LITERATURE/DATASHEET/CD00277537.pdf; ComponentLink3Description: STM32 L1 Family Web Page; ComponentLink3URL: http://www.st.com/internet/mcu/subclass/1376.jsp
footprint LQFP48_N (Thin QFP, 48-Leads, Body 7x7mm, Pitch 0.5mm, IPC Medium Density)
footprint LQFP48_L (Thin QFP, 48-Leads, Body 7x7mm, Pitch 0.5mm, IPC High Density)
footprint LQFP48_M (Thin QFP, 48-Leads, Body 7x7mm, Pitch 0.5mm, IPC Low Density)
part A pins: 2 PC13-RTC_AF1-WKUP2 (io), 3 PC14-OSC32_IN (io), 4 PC15-OSC32_OUT (io), 5 PH0-OSC_IN (io), 6 PH1-OSC_OUT (io), 7 NRST (io), 10 PA0-WKUP1 (io), 11 PA1 (io), 12 PA2 (io), 13 PA3 (io), 14 PA4 (io), 15 PA5 (io), 16 PA6 (io), 17 PA7 (io), 18 PB0 (io), 19 PB1 (io), 20 PB2 (io), 21 PB10 (io), 22 PB11 (io), 25 PB12 (io), 26 PB13 (io), 27 PB14 (io), 28 PB15 (io), 29 PA8 (io), 30 PA9 (io), 31 PA10 (io), 32 PA11 (io), 33 PA12 (io), 34 PA13 (io), 37 PA14 (io), 38 PA15 (io), 39 PB3 (io), 40 PB4 (io), 41 PB5 (io), 42 PB6 (io), 43 PB7 (io), 44 BOOT0 (in), 45 PB8 (io), 46 PB9 (io)
part B pins: 1 RES (power) "Connect to VDD", 8 VSSA (power), 9 VDDA (power), 23 VSS_1 (power), 24 VDD_1 (power), 35 VSS_2 (power), 36 VDD_2 (power), 47 VSS_3 (power), 48 VDD_3 (power)

## STM32L151C8U6
designator U?
STM32L ARM-based EnergyLite 32-bit MCU, 64 kB Flash, 10 kB Internal RAM, -40 to +85癈 Temperature, 48-pin UFQFPN, Tray; 封装库来自淘宝卖家ID：黄晶宝石: 其他店铺购入均为盗版假冒封装库,请立即申请退款，本店现金奖励100~1000元; DatasheetVersion: rev6, Jan-2012; PackageVersion: 2011; PackageReference: UFQFPN48; PackageDescription: 48-Pin Ultra Thin Fine Pitch Quad Flat No-Lead, 7 x 7 x 0.55 mm Body, 0.5 mm Pitch, Exposed Pad; ComponentLink1Description: Manufacturer URL; ComponentLink1URL: http://www.st.com/; ComponentLink2Description: STM32L151/152 Datasheet; ComponentLink2URL: http://www.st.com/internet/com/TECHNICAL_RESOURCES/TECHNICAL_LITERATURE/DATASHEET/CD00277537.pdf; ComponentLink3Description: STM32 L1 Family Web Page; ComponentLink3URL: http://www.st.com/internet/mcu/subclass/1376.jsp
footprint UFQFPN48_N (QFN, 48-Leads, Body 7x7mm, Pitch 0.5mm, Thermal Pad 5.6x5.6mm, IPC Medium Density)
footprint UFQFPN48_L (QFN, 48-Leads, Body 7x7mm, Pitch 0.5mm, Thermal Pad 5.6x5.6mm, IPC High Density)
footprint UFQFPN48_M (QFN, 48-Leads, Body 7x7mm, Pitch 0.5mm, Thermal Pad 5.6x5.6mm, IPC Low Density)
part A pins: 2 PC13-RTC_AF1 (io), 3 PC14-OSC32_IN (io), 4 PC15-OSC32_OUT (io), 5 PH0-OSC_IN (io), 6 PH1-OSC_OUT (io), 7 NRST (io), 10 PA0-WKUP (io), 11 PA1 (io), 12 PA2 (io), 13 PA3 (io), 14 PA4 (io), 15 PA5 (io), 16 PA6 (io), 17 PA7 (io), 18 PB0 (io), 19 PB1 (io), 20 PB2 (io), 21 PB10 (io), 22 PB11 (io), 25 PB12 (io), 26 PB13 (io), 27 PB14 (io), 28 PB15 (io), 29 PA8 (io), 30 PA9 (io), 31 PA10 (io), 32 PA11 (io), 33 PA12 (io), 34 PA13 (io), 37 PA14 (io), 38 PA15 (io), 39 PB3 (io), 40 PB4 (io), 41 PB5 (io), 42 PB6 (io), 43 PB7 (io), 44 BOOT0 (in), 45 PB8 (io), 46 PB9 (io)
part B pins: 1 RES (power) "Connect to VDD", 8 VSSA (power), 9 VDDA (power), 23 VSS_1 (power), 24 VDD_1 (power), 35 VSS_2 (power), 36 VDD_2 (power), 47 VSS_3 (power), 48 VDD_3 (power), 49 EP (power)

## STM32L151CBT6
designator U?
STM32L ARM-based EnergyLite 32-bit MCU, 128 kB Flash, 16 kB Internal RAM, -40 to +85癈 Temperature, 48-pin LQFP, Tray; 封装库来自淘宝卖家ID：黄晶宝石: 其他店铺购入均为盗版假冒封装库,请立即申请退款，本店现金奖励100~1000元; DatasheetVersion: rev6, Jan-2012; PackageVersion: rev13, Apr-2011; PackageReference: LQFP48; PackageDescription: 48-Pin Low-Profile Quad Flat Pack, 7 x 7 mm Body, 0.5 mm Pitch (LQFP48); ComponentLink1Description: Manufacturer URL; ComponentLink1URL: http://www.st.com/; ComponentLink2Description: STM32L151/152 Datasheet; ComponentLink2URL: http://www.st.com/internet/com/TECHNICAL_RESOURCES/TECHNICAL_LITERATURE/DATASHEET/CD00277537.pdf; ComponentLink3Description: STM32 L1 Family Web Page; ComponentLink3URL: http://www.st.com/internet/mcu/subclass/1376.jsp
footprint LQFP48_N (Thin QFP, 48-Leads, Body 7x7mm, Pitch 0.5mm, IPC Medium Density)
footprint LQFP48_L (Thin QFP, 48-Leads, Body 7x7mm, Pitch 0.5mm, IPC High Density)
footprint LQFP48_M (Thin QFP, 48-Leads, Body 7x7mm, Pitch 0.5mm, IPC Low Density)
part A pins: 2 PC13-RTC_AF1-WKUP2 (io), 3 PC14-OSC32_IN (io), 4 PC15-OSC32_OUT (io), 5 PH0-OSC_IN (io), 6 PH1-OSC_OUT (io), 7 NRST (io), 10 PA0-WKUP1 (io), 11 PA1 (io), 12 PA2 (io), 13 PA3 (io), 14 PA4 (io), 15 PA5 (io), 16 PA6 (io), 17 PA7 (io), 18 PB0 (io), 19 PB1 (io), 20 PB2 (io), 21 PB10 (io), 22 PB11 (io), 25 PB12 (io), 26 PB13 (io), 27 PB14 (io), 28 PB15 (io), 29 PA8 (io), 30 PA9 (io), 31 PA10 (io), 32 PA11 (io), 33 PA12 (io), 34 PA13 (io), 37 PA14 (io), 38 PA15 (io), 39 PB3 (io), 40 PB4 (io), 41 PB5 (io), 42 PB6 (io), 43 PB7 (io), 44 BOOT0 (in), 45 PB8 (io), 46 PB9 (io)
part B pins: 1 RES (power) "Connect to VDD", 8 VSSA (power), 9 VDDA (power), 23 VSS_1 (power), 24 VDD_1 (power), 35 VSS_2 (power), 36 VDD_2 (power), 47 VSS_3 (power), 48 VDD_3 (power)

## STM32L151CBU6
designator U?
STM32L ARM-based EnergyLite 32-bit MCU, 128 kB Flash, 16 kB Internal RAM, -40 to +85癈 Temperature, 48-pin UFQFPN, Tray; 封装库来自淘宝卖家ID：黄晶宝石: 其他店铺购入均为盗版假冒封装库,请立即申请退款，本店现金奖励100~1000元; DatasheetVersion: rev6, Jan-2012; PackageVersion: 2011; PackageReference: UFQFPN48; PackageDescription: 48-Pin Ultra Thin Fine Pitch Quad Flat No-Lead, 7 x 7 x 0.55 mm Body, 0.5 mm Pitch, Exposed Pad; ComponentLink1Description: Manufacturer URL; ComponentLink1URL: http://www.st.com/; ComponentLink2Description: STM32L151/152 Datasheet; ComponentLink2URL: http://www.st.com/internet/com/TECHNICAL_RESOURCES/TECHNICAL_LITERATURE/DATASHEET/CD00277537.pdf; ComponentLink3Description: STM32 L1 Family Web Page; ComponentLink3URL: http://www.st.com/internet/mcu/subclass/1376.jsp
footprint UFQFPN48_N (QFN, 48-Leads, Body 7x7mm, Pitch 0.5mm, Thermal Pad 5.6x5.6mm, IPC Medium Density)
footprint UFQFPN48_L (QFN, 48-Leads, Body 7x7mm, Pitch 0.5mm, Thermal Pad 5.6x5.6mm, IPC High Density)
footprint UFQFPN48_M (QFN, 48-Leads, Body 7x7mm, Pitch 0.5mm, Thermal Pad 5.6x5.6mm, IPC Low Density)
part A pins: 2 PC13-RTC_AF1 (io), 3 PC14-OSC32_IN (io), 4 PC15-OSC32_OUT (io), 5 PH0-OSC_IN (io), 6 PH1-OSC_OUT (io), 7 NRST (io), 10 PA0-WKUP (io), 11 PA1 (io), 12 PA2 (io), 13 PA3 (io), 14 PA4 (io), 15 PA5 (io), 16 PA6 (io), 17 PA7 (io), 18 PB0 (io), 19 PB1 (io), 20 PB2 (io), 21 PB10 (io), 22 PB11 (io), 25 PB12 (io), 26 PB13 (io), 27 PB14 (io), 28 PB15 (io), 29 PA8 (io), 30 PA9 (io), 31 PA10 (io), 32 PA11 (io), 33 PA12 (io), 34 PA13 (io), 37 PA14 (io), 38 PA15 (io), 39 PB3 (io), 40 PB4 (io), 41 PB5 (io), 42 PB6 (io), 43 PB7 (io), 44 BOOT0 (in), 45 PB8 (io), 46 PB9 (io)
part B pins: 1 RES (power) "Connect to VDD", 8 VSSA (power), 9 VDDA (power), 23 VSS_1 (power), 24 VDD_1 (power), 35 VSS_2 (power), 36 VDD_2 (power), 47 VSS_3 (power), 48 VDD_3 (power), 49 EP (power)

## STM32L151R8H6
designator U?
STM32L ARM-based EnergyLite 32-bit MCU, 64 kB Flash, 10 kB Internal RAM, -40 to +85癈 Temperature, 64-pin TFBGA, Tray; 封装库来自淘宝卖家ID：黄晶宝石: 其他店铺购入均为盗版假冒封装库,请立即申请退款，本店现金奖励100~1000元; DatasheetVersion: rev6, Jan-2012; PackageVersion: 2011; PackageReference: TFBGA64; PackageDescription: 64-Ball Thin Fine-Pitch BGA (8x8 Array), 5 x 5 mm Body, 0.5 mm Pitch; ComponentLink1Description: Manufacturer URL; ComponentLink1URL: http://www.st.com/; ComponentLink2Description: STM32L151/152 Datasheet; ComponentLink2URL: http://www.st.com/internet/com/TECHNICAL_RESOURCES/TECHNICAL_LITERATURE/DATASHEET/CD00277537.pdf; ComponentLink3Description: STM32 L1 Family Web Page; ComponentLink3URL: http://www.st.com/internet/mcu/subclass/1376.jsp
footprint TFBGA64 (BGA, 64-Leads, Body 5x5mm, Pitch 0.5mm)
part A pins: A1 PC14-OSC32_IN (io), A2 PC13-RTC_AF1-WKUP2 (io), A3 PB9 (io), A4 PB4 (io), A5 PB3 (io), A6 PA15 (io), A7 PA14 (io), A8 PA13 (io), B1 PC15-OSC32_OUT (io), B3 PB8 (io), B4 BOOT0 (in), B5 PD2 (io), B6 PC11 (io), B7 PC10 (io), B8 PA12 (io), C1 PH0-OSC_IN (io), C3 PB7 (io), C4 PB5 (io), C5 PC12 (io), C6 PA10 (io), C7 PA9 (io), C8 PA11 (io), D1 PH1-OSC_OUT (io), D3 PB6 (io), D7 PA8 (io), D8 PC9 (io), E1 NRST (io), E2 PC1 (io), E3 PC0 (io), E7 PC7 (io), E8 PC8 (io), F2 PC2 (io), F3 PA2 (io), F4 PA5 (io), F5 PB0 (io), F6 PC6 (io), F7 PB15 (io), F8 PB14 (io), G2 PA0-WKUP1 (io), G3 PA3 (io), G4 PA6 (io), G5 PB1 (io), G6 PB2 (io), G7 PB10 (io), G8 PB13 (io), H2 PA1 (io), H3 PA4 (io), H4 PA7 (io), H5 PC4 (io), H6 PC5 (io), H7 PB11 (io), H8 PB12 (io)
part B pins: B2 RES (power) "Connect to VDD", C2 VSS_4 (power), D2 VDD_4 (power), D4 VSS_3 (power), D5 VSS_2 (power), D6 VSS_1 (power), E4 VDD_3 (power), E5 VDD_2 (power), E6 VDD_1 (power), F1 VSSA (power), G1 VREF+ (power), H1 VDDA (power)

## STM32L151R8T6
designator U?
STM32L ARM-based EnergyLite 32-bit MCU, 64 kB Flash, 10 kB Internal RAM, -40 to +85癈 Temperature, 64-pin LQFP, Tray; 封装库来自淘宝卖家ID：黄晶宝石: 其他店铺购入均为盗版假冒封装库,请立即申请退款，本店现金奖励100~1000元; DatasheetVersion: rev6, Jan-2012; PackageVersion: rev13, Apr-2011; PackageReference: LQFP64; PackageDescription: 64-Pin Low-Profile Quad Flat Pack, 10 x 10 mm Body, 0.5 mm Pitch (LQFP64); ComponentLink1Description: Manufacturer URL; ComponentLink1URL: http://www.st.com/; ComponentLink2Description: STM32L151/152 Datasheet; ComponentLink2URL: http://www.st.com/internet/com/TECHNICAL_RESOURCES/TECHNICAL_LITERATURE/DATASHEET/CD00277537.pdf; ComponentLink3Description: STM32 L1 Family Web Page; ComponentLink3URL: http://www.st.com/internet/mcu/subclass/1376.jsp
footprint LQFP64_N (Thin QFP, 64-Leads, Body 10x10mm, Pitch 0.5mm, IPC Medium Density)
footprint LQFP64_L (Thin QFP, 64-Leads, Body 10x10mm, Pitch 0.5mm, IPC High Density)
footprint LQFP64_M (Thin QFP, 64-Leads, Body 10x10mm, Pitch 0.5mm, IPC Low Density)
part A pins: 2 PC13-RTC_AF1-WKUP2 (io), 3 PC14-OSC32_IN (io), 4 PC15-OSC32_OUT (io), 5 PH0-OSC_IN (io), 6 PH1-OSC_OUT (io), 7 NRST (io), 8 PC0 (io), 9 PC1 (io), 10 PC2 (io), 11 PC3 (io), 14 PA0-WKUP1 (io), 15 PA1 (io), 16 PA2 (io), 17 PA3 (io), 20 PA4 (io), 21 PA5 (io), 22 PA6 (io), 23 PA7 (io), 24 PC4 (io), 25 PC5 (io), 26 PB0 (io), 27 PB1 (io), 28 PB2 (io), 29 PB10 (io), 30 PB11 (io), 33 PB12 (io), 34 PB13 (io), 35 PB14 (io), 36 PB15 (io), 37 PC6 (io), 38 PC7 (io), 39 PC8 (io), 40 PC9 (io), 41 PA8 (io), 42 PA9 (io), 43 PA10 (io), 44 PA11 (io), 45 PA12 (io), 46 PA13 (io), 49 PA14 (io), 50 PA15 (io), 51 PC10 (io), 52 PC11 (io), 53 PC12 (io), 54 PD2 (io), 55 PB3 (io), 56 PB4 (io), 57 PB5 (io), 58 PB6 (io), 59 PB7 (io), 60 BOOT0 (in), 61 PB8 (io), 62 PB9 (io)
part B pins: 1 RES (power) "Connect to VDD", 12 VSSA (power), 13 VDDA (power), 18 VSS_4 (power), 19 VDD_4 (power), 31 VSS_1 (power), 32 VDD_1 (power), 47 VSS_2 (power), 48 VDD_2 (power), 63 VSS_3 (power), 64 VDD_3 (power)

## STM32L151RBH6
designator U?
STM32L ARM-based EnergyLite 32-bit MCU, 128 kB Flash, 16 kB Internal RAM, -40 to +85癈 Temperature, 64-pin TFBGA, Tray; 封装库来自淘宝卖家ID：黄晶宝石: 其他店铺购入均为盗版假冒封装库,请立即申请退款，本店现金奖励100~1000元; DatasheetVersion: rev6, Jan-2012; PackageVersion: 2011; PackageReference: TFBGA64; PackageDescription: 64-Ball Thin Fine-Pitch BGA (8x8 Array), 5 x 5 mm Body, 0.5 mm Pitch; ComponentLink1Description: Manufacturer URL; ComponentLink1URL: http://www.st.com/; ComponentLink2Description: STM32L151/152 Datasheet; ComponentLink2URL: http://www.st.com/internet/com/TECHNICAL_RESOURCES/TECHNICAL_LITERATURE/DATASHEET/CD00277537.pdf; ComponentLink3Description: STM32 L1 Family Web Page; ComponentLink3URL: http://www.st.com/internet/mcu/subclass/1376.jsp
footprint TFBGA64 (BGA, 64-Leads, Body 5x5mm, Pitch 0.5mm)
part A pins: A1 PC14-OSC32_IN (io), A2 PC13-RTC_AF1-WKUP2 (io), A3 PB9 (io), A4 PB4 (io), A5 PB3 (io), A6 PA15 (io), A7 PA14 (io), A8 PA13 (io), B1 PC15-OSC32_OUT (io), B3 PB8 (io), B4 BOOT0 (in), B5 PD2 (io), B6 PC11 (io), B7 PC10 (io), B8 PA12 (io), C1 PH0-OSC_IN (io), C3 PB7 (io), C4 PB5 (io), C5 PC12 (io), C6 PA10 (io), C7 PA9 (io), C8 PA11 (io), D1 PH1-OSC_OUT (io), D3 PB6 (io), D7 PA8 (io), D8 PC9 (io), E1 NRST (io), E2 PC1 (io), E3 PC0 (io), E7 PC7 (io), E8 PC8 (io), F2 PC2 (io), F3 PA2 (io), F4 PA5 (io), F5 PB0 (io), F6 PC6 (io), F7 PB15 (io), F8 PB14 (io), G2 PA0-WKUP1 (io), G3 PA3 (io), G4 PA6 (io), G5 PB1 (io), G6 PB2 (io), G7 PB10 (io), G8 PB13 (io), H2 PA1 (io), H3 PA4 (io), H4 PA7 (io), H5 PC4 (io), H6 PC5 (io), H7 PB11 (io), H8 PB12 (io)
part B pins: B2 RES (power) "Connect to VDD", C2 VSS_4 (power), D2 VDD_4 (power), D4 VSS_3 (power), D5 VSS_2 (power), D6 VSS_1 (power), E4 VDD_3 (power), E5 VDD_2 (power), E6 VDD_1 (power), F1 VSSA (power), G1 VREF+ (power), H1 VDDA (power)

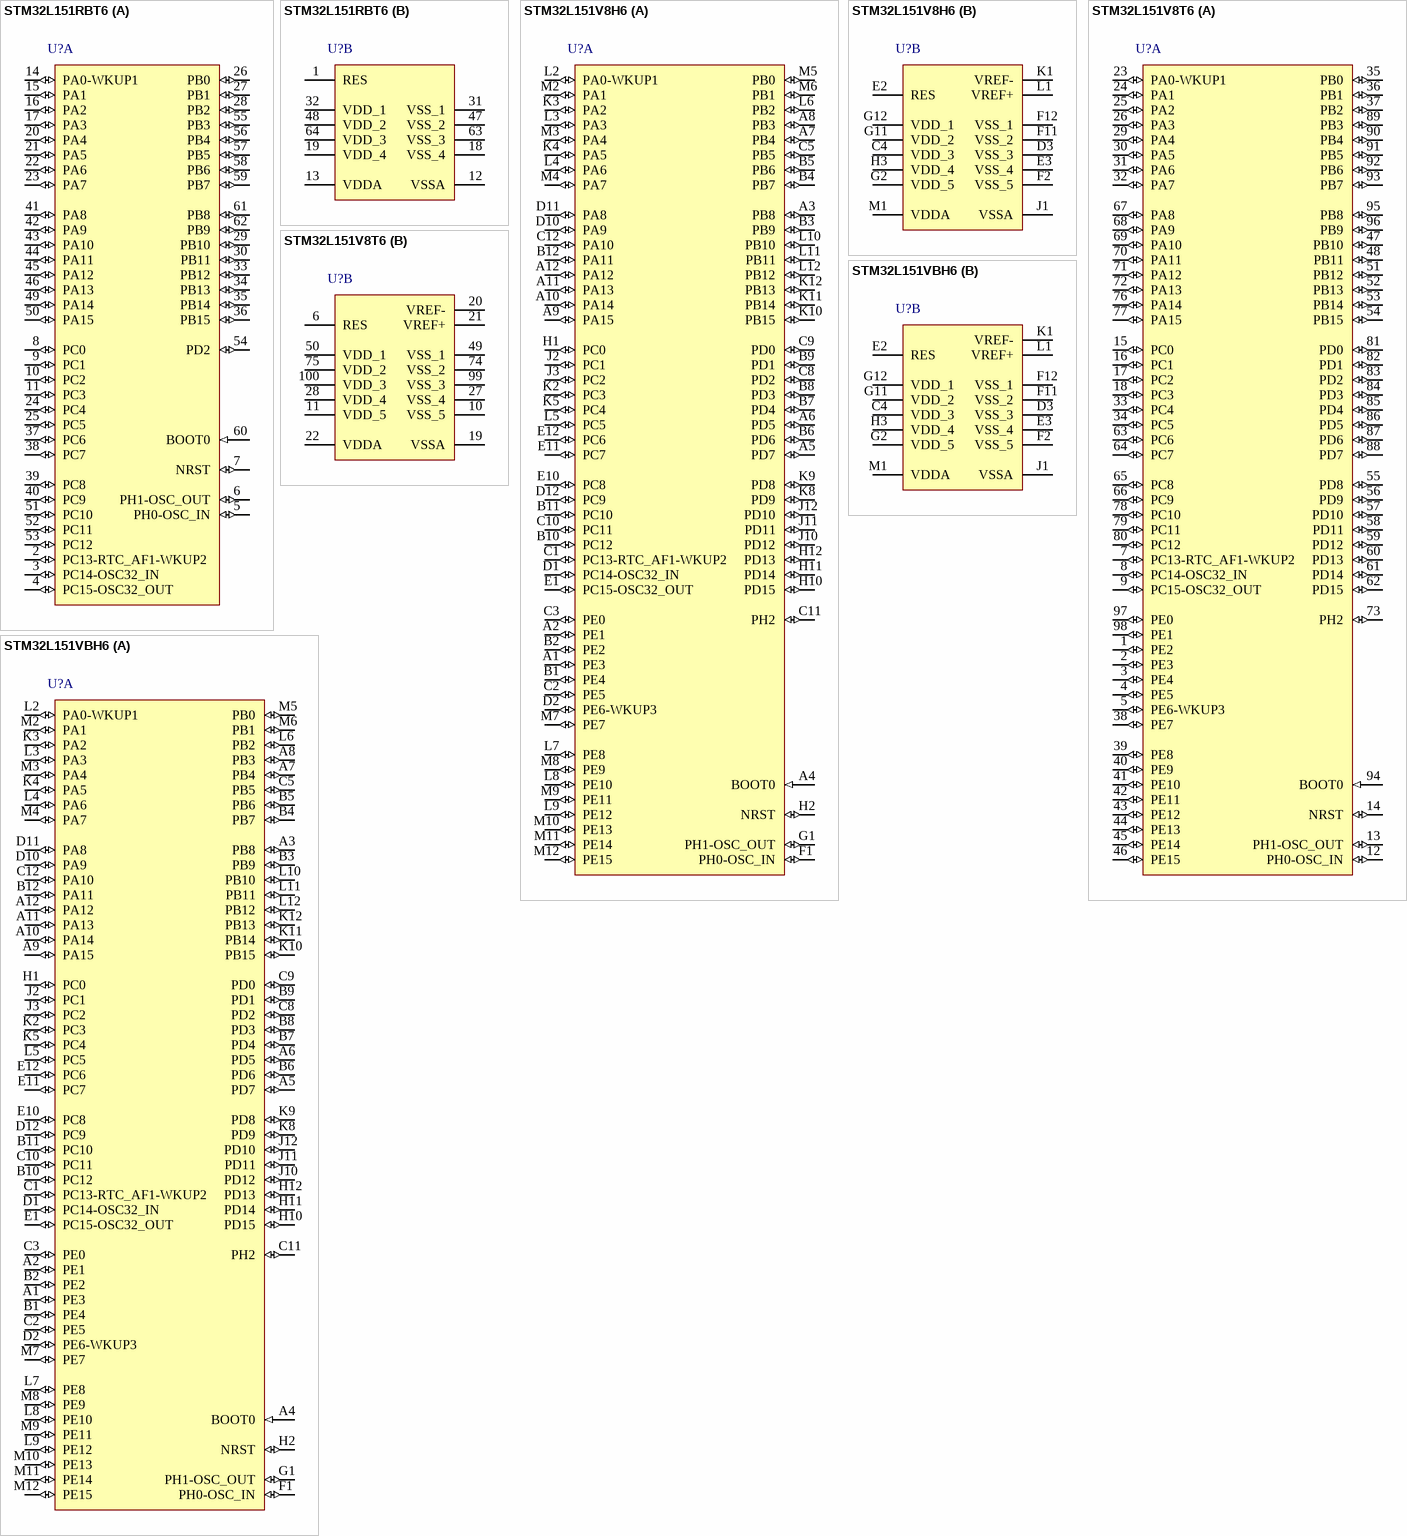
[diagram p2: symbols STM32L151RBT6 to STM32L151VBH6]

## STM32L151RBT6
designator U?
STM32L ARM-based EnergyLite 32-bit MCU, 128 kB Flash, 16 kB Internal RAM, -40 to +85癈 Temperature, 64-pin LQFP, Tray; 封装库来自淘宝卖家ID：黄晶宝石: 其他店铺购入均为盗版假冒封装库,请立即申请退款，本店现金奖励100~1000元; DatasheetVersion: rev6, Jan-2012; PackageVersion: rev13, Apr-2011; PackageReference: LQFP64; PackageDescription: 64-Pin Low-Profile Quad Flat Pack, 10 x 10 mm Body, 0.5 mm Pitch (LQFP64); ComponentLink1Description: Manufacturer URL; ComponentLink1URL: http://www.st.com/; ComponentLink2Description: STM32L151/152 Datasheet; ComponentLink2URL: http://www.st.com/internet/com/TECHNICAL_RESOURCES/TECHNICAL_LITERATURE/DATASHEET/CD00277537.pdf; ComponentLink3Description: STM32 L1 Family Web Page; ComponentLink3URL: http://www.st.com/internet/mcu/subclass/1376.jsp
footprint LQFP64_N (Thin QFP, 64-Leads, Body 10x10mm, Pitch 0.5mm, IPC Medium Density)
footprint LQFP64_L (Thin QFP, 64-Leads, Body 10x10mm, Pitch 0.5mm, IPC High Density)
footprint LQFP64_M (Thin QFP, 64-Leads, Body 10x10mm, Pitch 0.5mm, IPC Low Density)
part A pins: 2 PC13-RTC_AF1-WKUP2 (io), 3 PC14-OSC32_IN (io), 4 PC15-OSC32_OUT (io), 5 PH0-OSC_IN (io), 6 PH1-OSC_OUT (io), 7 NRST (io), 8 PC0 (io), 9 PC1 (io), 10 PC2 (io), 11 PC3 (io), 14 PA0-WKUP1 (io), 15 PA1 (io), 16 PA2 (io), 17 PA3 (io), 20 PA4 (io), 21 PA5 (io), 22 PA6 (io), 23 PA7 (io), 24 PC4 (io), 25 PC5 (io), 26 PB0 (io), 27 PB1 (io), 28 PB2 (io), 29 PB10 (io), 30 PB11 (io), 33 PB12 (io), 34 PB13 (io), 35 PB14 (io), 36 PB15 (io), 37 PC6 (io), 38 PC7 (io), 39 PC8 (io), 40 PC9 (io), 41 PA8 (io), 42 PA9 (io), 43 PA10 (io), 44 PA11 (io), 45 PA12 (io), 46 PA13 (io), 49 PA14 (io), 50 PA15 (io), 51 PC10 (io), 52 PC11 (io), 53 PC12 (io), 54 PD2 (io), 55 PB3 (io), 56 PB4 (io), 57 PB5 (io), 58 PB6 (io), 59 PB7 (io), 60 BOOT0 (in), 61 PB8 (io), 62 PB9 (io)
part B pins: 1 RES (power) "Connect to VDD", 12 VSSA (power), 13 VDDA (power), 18 VSS_4 (power), 19 VDD_4 (power), 31 VSS_1 (power), 32 VDD_1 (power), 47 VSS_2 (power), 48 VDD_2 (power), 63 VSS_3 (power), 64 VDD_3 (power)

## STM32L151V8H6
designator U?
STM32L ARM-based EnergyLite 32-bit MCU, 64 kB Flash, 10 kB Internal RAM, -40 to +85癈 Temperature, 100-pin UFBGA, Tray; 封装库来自淘宝卖家ID：黄晶宝石: 其他店铺购入均为盗版假冒封装库,请立即申请退款，本店现金奖励100~1000元; DatasheetVersion: rev6, Jan-2012; PackageVersion: 2011; PackageReference: UFBGA100; PackageDescription: 100-Ball Ultra Fine-Pitch Ball Grid Array, 7 x 7 mm Body, 0.5 mm Pitch; ComponentLink1Description: Manufacturer URL; ComponentLink1URL: http://www.st.com/; ComponentLink2Description: STM32L151/152 Datasheet; ComponentLink2URL: http://www.st.com/internet/com/TECHNICAL_RESOURCES/TECHNICAL_LITERATURE/DATASHEET/CD00277537.pdf; ComponentLink3Description: STM32 L1 Family Web Page; ComponentLink3URL: http://www.st.com/internet/mcu/subclass/1376.jsp
footprint UFBGA100 (BGA, 100-Leads, Body 7x7mm, Pitch 0.5mm)
part A pins: A1 PE3 (io), A2 PE1 (io), A3 PB8 (io), A4 BOOT0 (in), A5 PD7 (io), A6 PD5 (io), A7 PB4 (io), A8 PB3 (io), A9 PA15 (io), A10 PA14 (io), A11 PA13 (io), A12 PA12 (io), B1 PE4 (io), B2 PE2 (io), B3 PB9 (io), B4 PB7 (io), B5 PB6 (io), B6 PD6 (io), B7 PD4 (io), B8 PD3 (io), B9 PD1 (io), B10 PC12 (io), B11 PC10 (io), B12 PA11 (io), C1 PC13-RTC_AF1-WKUP2 (io), C2 PE5 (io), C3 PE0 (io), C5 PB5 (io), C8 PD2 (io), C9 PD0 (io), C10 PC11 (io), C11 PH2 (io), C12 PA10 (io), D1 PC14-OSC32_IN (io), D2 PE6-WKUP3 (io), D10 PA9 (io), D11 PA8 (io), D12 PC9 (io), E1 PC15-OSC32_OUT (io), E10 PC8 (io), E11 PC7 (io), E12 PC6 (io), F1 PH0-OSC_IN (io), G1 PH1-OSC_OUT (io), H1 PC0 (io), H2 NRST (io), H10 PD15 (io), H11 PD14 (io), H12 PD13 (io), J2 PC1 (io), J3 PC2 (io), J10 PD12 (io), J11 PD11 (io), J12 PD10 (io), K2 PC3 (io), K3 PA2 (io), K4 PA5 (io), K5 PC4 (io), K8 PD9 (io), K9 PD8 (io), K10 PB15 (io), K11 PB14 (io), K12 PB13 (io), L2 PA0-WKUP1 (io), L3 PA3 (io), L4 PA6 (io), L5 PC5 (io), L6 PB2 (io), L7 PE8 (io), L8 PE10 (io), L9 PE12 (io), L10 PB10 (io), L11 PB11 (io), L12 PB12 (io), M2 PA1 (io), M3 PA4 (io), M4 PA7 (io), M5 PB0 (io), M6 PB1 (io), M7 PE7 (io), M8 PE9 (io), M9 PE11 (io), M10 PE13 (io), M11 PE14 (io), M12 PE15 (io)
part B pins: C4 VDD_3 (power), D3 VSS_3 (power), E2 RES (power) "Connect to VDD", E3 VSS_4 (power), F2 VSS_5 (power), F11 VSS_2 (power), F12 VSS_1 (power), G2 VDD_5 (power), G11 VDD_2 (power), G12 VDD_1 (power), H3 VDD_4 (power), J1 VSSA (power), K1 VREF- (power), L1 VREF+ (power), M1 VDDA (power)

## STM32L151V8T6
designator U?
STM32L ARM-based EnergyLite 32-bit MCU, 64 kB Flash, 10 kB Internal RAM, -40 to +85癈 Temperature, 100-pin LQFP, Tray; 封装库来自淘宝卖家ID：黄晶宝石: 其他店铺购入均为盗版假冒封装库,请立即申请退款，本店现金奖励100~1000元; DatasheetVersion: rev6, Jan-2012; PackageVersion: 2012; PackageReference: LQFP100; PackageDescription: 100-Pin Low Profile Quad Flat Package, 14x14 mm Body, 0.5 mm Pitch; ComponentLink1Description: Manufacturer URL; ComponentLink1URL: http://www.st.com/; ComponentLink2Description: STM32L151/152 Datasheet; ComponentLink2URL: http://www.st.com/internet/com/TECHNICAL_RESOURCES/TECHNICAL_LITERATURE/DATASHEET/CD00277537.pdf; ComponentLink3Description: STM32 L1 Family Web Page; ComponentLink3URL: http://www.st.com/internet/mcu/subclass/1376.jsp
footprint LQFP100_V (Thin QFP, 100-Leads, Body 14x14mm, Pitch 0.5mm, ST Recommended)
footprint LQFP100_N (Thin QFP, 100-Leads, Body 14x14mm, Pitch 0.5mm, IPC Medium Density)
footprint LQFP100_L (Thin QFP, 100-Leads, Body 14x14mm, Pitch 0.5mm, IPC High Density)
footprint LQFP100_M (Thin QFP, 100-Leads, Body 14x14mm, Pitch 0.5mm, IPC Low Density)
part A pins: 1 PE2 (io), 2 PE3 (io), 3 PE4 (io), 4 PE5 (io), 5 PE6-WKUP3 (io), 7 PC13-RTC_AF1-WKUP2 (io), 8 PC14-OSC32_IN (io), 9 PC15-OSC32_OUT (io), 12 PH0-OSC_IN (io), 13 PH1-OSC_OUT (io), 14 NRST (io), 15 PC0 (io), 16 PC1 (io), 17 PC2 (io), 18 PC3 (io), 23 PA0-WKUP1 (io), 24 PA1 (io), 25 PA2 (io), 26 PA3 (io), 29 PA4 (io), 30 PA5 (io), 31 PA6 (io), 32 PA7 (io), 33 PC4 (io), 34 PC5 (io), 35 PB0 (io), 36 PB1 (io), 37 PB2 (io), 38 PE7 (io), 39 PE8 (io), 40 PE9 (io), 41 PE10 (io), 42 PE11 (io), 43 PE12 (io), 44 PE13 (io), 45 PE14 (io), 46 PE15 (io), 47 PB10 (io), 48 PB11 (io), 51 PB12 (io), 52 PB13 (io), 53 PB14 (io), 54 PB15 (io), 55 PD8 (io), 56 PD9 (io), 57 PD10 (io), 58 PD11 (io), 59 PD12 (io), 60 PD13 (io), 61 PD14 (io), 62 PD15 (io), 63 PC6 (io), 64 PC7 (io), 65 PC8 (io), 66 PC9 (io), 67 PA8 (io), 68 PA9 (io), 69 PA10 (io), 70 PA11 (io), 71 PA12 (io), 72 PA13 (io), 73 PH2 (io), 76 PA14 (io), 77 PA15 (io), 78 PC10 (io), 79 PC11 (io), 80 PC12 (io), 81 PD0 (io), 82 PD1 (io), 83 PD2 (io), 84 PD3 (io), 85 PD4 (io), 86 PD5 (io), 87 PD6 (io), 88 PD7 (io), 89 PB3 (io), 90 PB4 (io), 91 PB5 (io), 92 PB6 (io), 93 PB7 (io), 94 BOOT0 (in), 95 PB8 (io), 96 PB9 (io), 97 PE0 (io), 98 PE1 (io)
part B pins: 6 RES (power) "Connect to VDD", 10 VSS_5 (power), 11 VDD_5 (power), 19 VSSA (power), 20 VREF- (power), 21 VREF+ (power), 22 VDDA (power), 27 VSS_4 (power), 28 VDD_4 (power), 49 VSS_1 (power), 50 VDD_1 (power), 74 VSS_2 (power), 75 VDD_2 (power), 99 VSS_3 (power), 100 VDD_3 (power)

## STM32L151VBH6
designator U?
STM32L ARM-based EnergyLite 32-bit MCU, 128 kB Flash, 16 kB Internal RAM, -40 to +85癈 Temperature, 100-pin UFBGA, Tray; 封装库来自淘宝卖家ID：黄晶宝石: 其他店铺购入均为盗版假冒封装库,请立即申请退款，本店现金奖励100~1000元; DatasheetVersion: rev6, Jan-2012; PackageVersion: 2011; PackageReference: UFBGA100; PackageDescription: 100-Ball Ultra Fine-Pitch Ball Grid Array, 7 x 7 mm Body, 0.5 mm Pitch; ComponentLink1Description: Manufacturer URL; ComponentLink1URL: http://www.st.com/; ComponentLink2Description: STM32L151/152 Datasheet; ComponentLink2URL: http://www.st.com/internet/com/TECHNICAL_RESOURCES/TECHNICAL_LITERATURE/DATASHEET/CD00277537.pdf; ComponentLink3Description: STM32 L1 Family Web Page; ComponentLink3URL: http://www.st.com/internet/mcu/subclass/1376.jsp
footprint UFBGA100 (BGA, 100-Leads, Body 7x7mm, Pitch 0.5mm)
part A pins: A1 PE3 (io), A2 PE1 (io), A3 PB8 (io), A4 BOOT0 (in), A5 PD7 (io), A6 PD5 (io), A7 PB4 (io), A8 PB3 (io), A9 PA15 (io), A10 PA14 (io), A11 PA13 (io), A12 PA12 (io), B1 PE4 (io), B2 PE2 (io), B3 PB9 (io), B4 PB7 (io), B5 PB6 (io), B6 PD6 (io), B7 PD4 (io), B8 PD3 (io), B9 PD1 (io), B10 PC12 (io), B11 PC10 (io), B12 PA11 (io), C1 PC13-RTC_AF1-WKUP2 (io), C2 PE5 (io), C3 PE0 (io), C5 PB5 (io), C8 PD2 (io), C9 PD0 (io), C10 PC11 (io), C11 PH2 (io), C12 PA10 (io), D1 PC14-OSC32_IN (io), D2 PE6-WKUP3 (io), D10 PA9 (io), D11 PA8 (io), D12 PC9 (io), E1 PC15-OSC32_OUT (io), E10 PC8 (io), E11 PC7 (io), E12 PC6 (io), F1 PH0-OSC_IN (io), G1 PH1-OSC_OUT (io), H1 PC0 (io), H2 NRST (io), H10 PD15 (io), H11 PD14 (io), H12 PD13 (io), J2 PC1 (io), J3 PC2 (io), J10 PD12 (io), J11 PD11 (io), J12 PD10 (io), K2 PC3 (io), K3 PA2 (io), K4 PA5 (io), K5 PC4 (io), K8 PD9 (io), K9 PD8 (io), K10 PB15 (io), K11 PB14 (io), K12 PB13 (io), L2 PA0-WKUP1 (io), L3 PA3 (io), L4 PA6 (io), L5 PC5 (io), L6 PB2 (io), L7 PE8 (io), L8 PE10 (io), L9 PE12 (io), L10 PB10 (io), L11 PB11 (io), L12 PB12 (io), M2 PA1 (io), M3 PA4 (io), M4 PA7 (io), M5 PB0 (io), M6 PB1 (io), M7 PE7 (io), M8 PE9 (io), M9 PE11 (io), M10 PE13 (io), M11 PE14 (io), M12 PE15 (io)
part B pins: C4 VDD_3 (power), D3 VSS_3 (power), E2 RES (power) "Connect to VDD", E3 VSS_4 (power), F2 VSS_5 (power), F11 VSS_2 (power), F12 VSS_1 (power), G2 VDD_5 (power), G11 VDD_2 (power), G12 VDD_1 (power), H3 VDD_4 (power), J1 VSSA (power), K1 VREF- (power), L1 VREF+ (power), M1 VDDA (power)

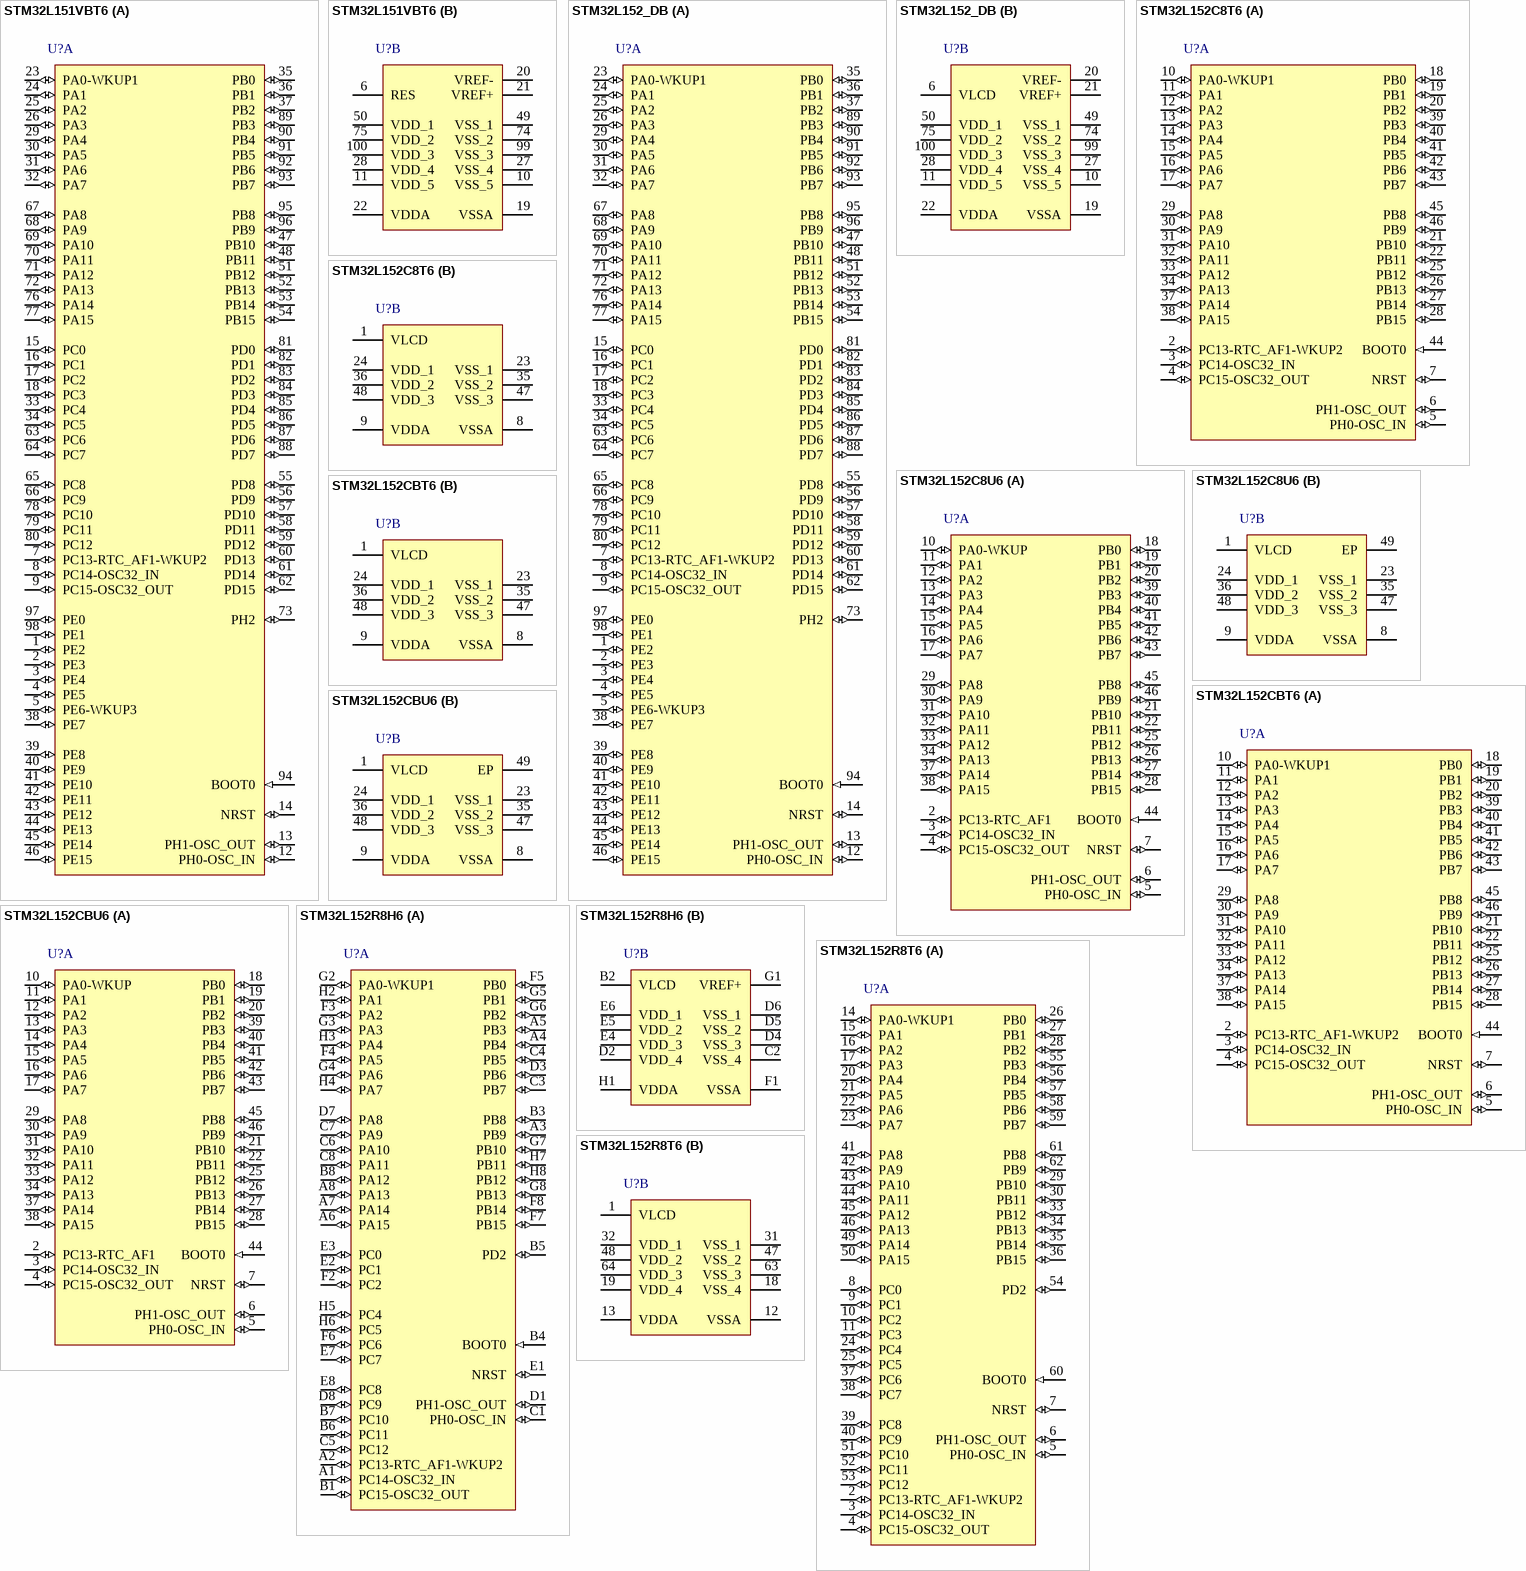
[diagram p3: symbols STM32L151VBT6 to STM32L152R8T6]

## STM32L151VBT6
designator U?
STM32L ARM-based EnergyLite 32-bit MCU, 128 kB Flash, 16 kB Internal RAM, -40 to +85癈 Temperature, 100-pin LQFP, Tray; 封装库来自淘宝卖家ID：黄晶宝石: 其他店铺购入均为盗版假冒封装库,请立即申请退款，本店现金奖励100~1000元; DatasheetVersion: rev6, Jan-2012; PackageVersion: 2012; PackageReference: LQFP100; PackageDescription: 100-Pin Low Profile Quad Flat Package, 14x14 mm Body, 0.5 mm Pitch; ComponentLink1Description: Manufacturer URL; ComponentLink1URL: http://www.st.com/; ComponentLink2Description: STM32L151/152 Datasheet; ComponentLink2URL: http://www.st.com/internet/com/TECHNICAL_RESOURCES/TECHNICAL_LITERATURE/DATASHEET/CD00277537.pdf; ComponentLink3Description: STM32 L1 Family Web Page; ComponentLink3URL: http://www.st.com/internet/mcu/subclass/1376.jsp
footprint LQFP100_V (Thin QFP, 100-Leads, Body 14x14mm, Pitch 0.5mm, ST Recommended)
footprint LQFP100_N (Thin QFP, 100-Leads, Body 14x14mm, Pitch 0.5mm, IPC Medium Density)
footprint LQFP100_L (Thin QFP, 100-Leads, Body 14x14mm, Pitch 0.5mm, IPC High Density)
footprint LQFP100_M (Thin QFP, 100-Leads, Body 14x14mm, Pitch 0.5mm, IPC Low Density)
part A pins: 1 PE2 (io), 2 PE3 (io), 3 PE4 (io), 4 PE5 (io), 5 PE6-WKUP3 (io), 7 PC13-RTC_AF1-WKUP2 (io), 8 PC14-OSC32_IN (io), 9 PC15-OSC32_OUT (io), 12 PH0-OSC_IN (io), 13 PH1-OSC_OUT (io), 14 NRST (io), 15 PC0 (io), 16 PC1 (io), 17 PC2 (io), 18 PC3 (io), 23 PA0-WKUP1 (io), 24 PA1 (io), 25 PA2 (io), 26 PA3 (io), 29 PA4 (io), 30 PA5 (io), 31 PA6 (io), 32 PA7 (io), 33 PC4 (io), 34 PC5 (io), 35 PB0 (io), 36 PB1 (io), 37 PB2 (io), 38 PE7 (io), 39 PE8 (io), 40 PE9 (io), 41 PE10 (io), 42 PE11 (io), 43 PE12 (io), 44 PE13 (io), 45 PE14 (io), 46 PE15 (io), 47 PB10 (io), 48 PB11 (io), 51 PB12 (io), 52 PB13 (io), 53 PB14 (io), 54 PB15 (io), 55 PD8 (io), 56 PD9 (io), 57 PD10 (io), 58 PD11 (io), 59 PD12 (io), 60 PD13 (io), 61 PD14 (io), 62 PD15 (io), 63 PC6 (io), 64 PC7 (io), 65 PC8 (io), 66 PC9 (io), 67 PA8 (io), 68 PA9 (io), 69 PA10 (io), 70 PA11 (io), 71 PA12 (io), 72 PA13 (io), 73 PH2 (io), 76 PA14 (io), 77 PA15 (io), 78 PC10 (io), 79 PC11 (io), 80 PC12 (io), 81 PD0 (io), 82 PD1 (io), 83 PD2 (io), 84 PD3 (io), 85 PD4 (io), 86 PD5 (io), 87 PD6 (io), 88 PD7 (io), 89 PB3 (io), 90 PB4 (io), 91 PB5 (io), 92 PB6 (io), 93 PB7 (io), 94 BOOT0 (in), 95 PB8 (io), 96 PB9 (io), 97 PE0 (io), 98 PE1 (io)
part B pins: 6 RES (power) "Connect to VDD", 10 VSS_5 (power), 11 VDD_5 (power), 19 VSSA (power), 20 VREF- (power), 21 VREF+ (power), 22 VDDA (power), 27 VSS_4 (power), 28 VDD_4 (power), 49 VSS_1 (power), 50 VDD_1 (power), 74 VSS_2 (power), 75 VDD_2 (power), 99 VSS_3 (power), 100 VDD_3 (power)

## STM32L152_DB
designator U?
STM32L ARM-based EnergyLite 32-bit MCU, LCD, 128 kB Flash, 16 kB Internal RAM, -40 to +85癈 Temperature, 100-pin LQFP, Tape and Reel; 封装库来自淘宝卖家ID：黄晶宝石: 其他店铺购入均为盗版假冒封装库,请立即申请退款，本店现金奖励100~1000元; DatasheetVersion: rev6, Jan-2012; PackageVersion: 2012; PackageReference: LQFP100; PackageDescription: 100-Pin Low Profile Quad Flat Package, 14x14 mm Body, 0.5 mm Pitch; ComponentLink1Description: Manufacturer URL; ComponentLink1URL: http://www.st.com/; ComponentLink2Description: STM32L151/152 Datasheet; ComponentLink2URL: http://www.st.com/internet/com/TECHNICAL_RESOURCES/TECHNICAL_LITERATURE/DATASHEET/CD00277537.pdf; ComponentLink3Description: STM32 L1 Family Web Page; ComponentLink3URL: http://www.st.com/internet/mcu/subclass/1376.jsp
footprint LQFP100_V (Thin QFP, 100-Leads, Body 14x14mm, Pitch 0.5mm, ST Recommended)
footprint LQFP100_N (Thin QFP, 100-Leads, Body 14x14mm, Pitch 0.5mm, IPC Medium Density)
footprint LQFP100_L (Thin QFP, 100-Leads, Body 14x14mm, Pitch 0.5mm, IPC High Density)
footprint LQFP100_M (Thin QFP, 100-Leads, Body 14x14mm, Pitch 0.5mm, IPC Low Density)
part A pins: 1 PE2 (io), 2 PE3 (io), 3 PE4 (io), 4 PE5 (io), 5 PE6-WKUP3 (io), 7 PC13-RTC_AF1-WKUP2 (io), 8 PC14-OSC32_IN (io), 9 PC15-OSC32_OUT (io), 12 PH0-OSC_IN (io), 13 PH1-OSC_OUT (io), 14 NRST (io), 15 PC0 (io), 16 PC1 (io), 17 PC2 (io), 18 PC3 (io), 23 PA0-WKUP1 (io), 24 PA1 (io), 25 PA2 (io), 26 PA3 (io), 29 PA4 (io), 30 PA5 (io), 31 PA6 (io), 32 PA7 (io), 33 PC4 (io), 34 PC5 (io), 35 PB0 (io), 36 PB1 (io), 37 PB2 (io), 38 PE7 (io), 39 PE8 (io), 40 PE9 (io), 41 PE10 (io), 42 PE11 (io), 43 PE12 (io), 44 PE13 (io), 45 PE14 (io), 46 PE15 (io), 47 PB10 (io), 48 PB11 (io), 51 PB12 (io), 52 PB13 (io), 53 PB14 (io), 54 PB15 (io), 55 PD8 (io), 56 PD9 (io), 57 PD10 (io), 58 PD11 (io), 59 PD12 (io), 60 PD13 (io), 61 PD14 (io), 62 PD15 (io), 63 PC6 (io), 64 PC7 (io), 65 PC8 (io), 66 PC9 (io), 67 PA8 (io), 68 PA9 (io), 69 PA10 (io), 70 PA11 (io), 71 PA12 (io), 72 PA13 (io), 73 PH2 (io), 76 PA14 (io), 77 PA15 (io), 78 PC10 (io), 79 PC11 (io), 80 PC12 (io), 81 PD0 (io), 82 PD1 (io), 83 PD2 (io), 84 PD3 (io), 85 PD4 (io), 86 PD5 (io), 87 PD6 (io), 88 PD7 (io), 89 PB3 (io), 90 PB4 (io), 91 PB5 (io), 92 PB6 (io), 93 PB7 (io), 94 BOOT0 (in), 95 PB8 (io), 96 PB9 (io), 97 PE0 (io), 98 PE1 (io)
part B pins: 6 VLCD (power), 10 VSS_5 (power), 11 VDD_5 (power), 19 VSSA (power), 20 VREF- (power), 21 VREF+ (power), 22 VDDA (power), 27 VSS_4 (power), 28 VDD_4 (power), 49 VSS_1 (power), 50 VDD_1 (power), 74 VSS_2 (power), 75 VDD_2 (power), 99 VSS_3 (power), 100 VDD_3 (power)